# Altium integrated library Atmel Microcontroller 32-Bit AVR UC3.IntLib: 109 symbols (part 3 of 15)
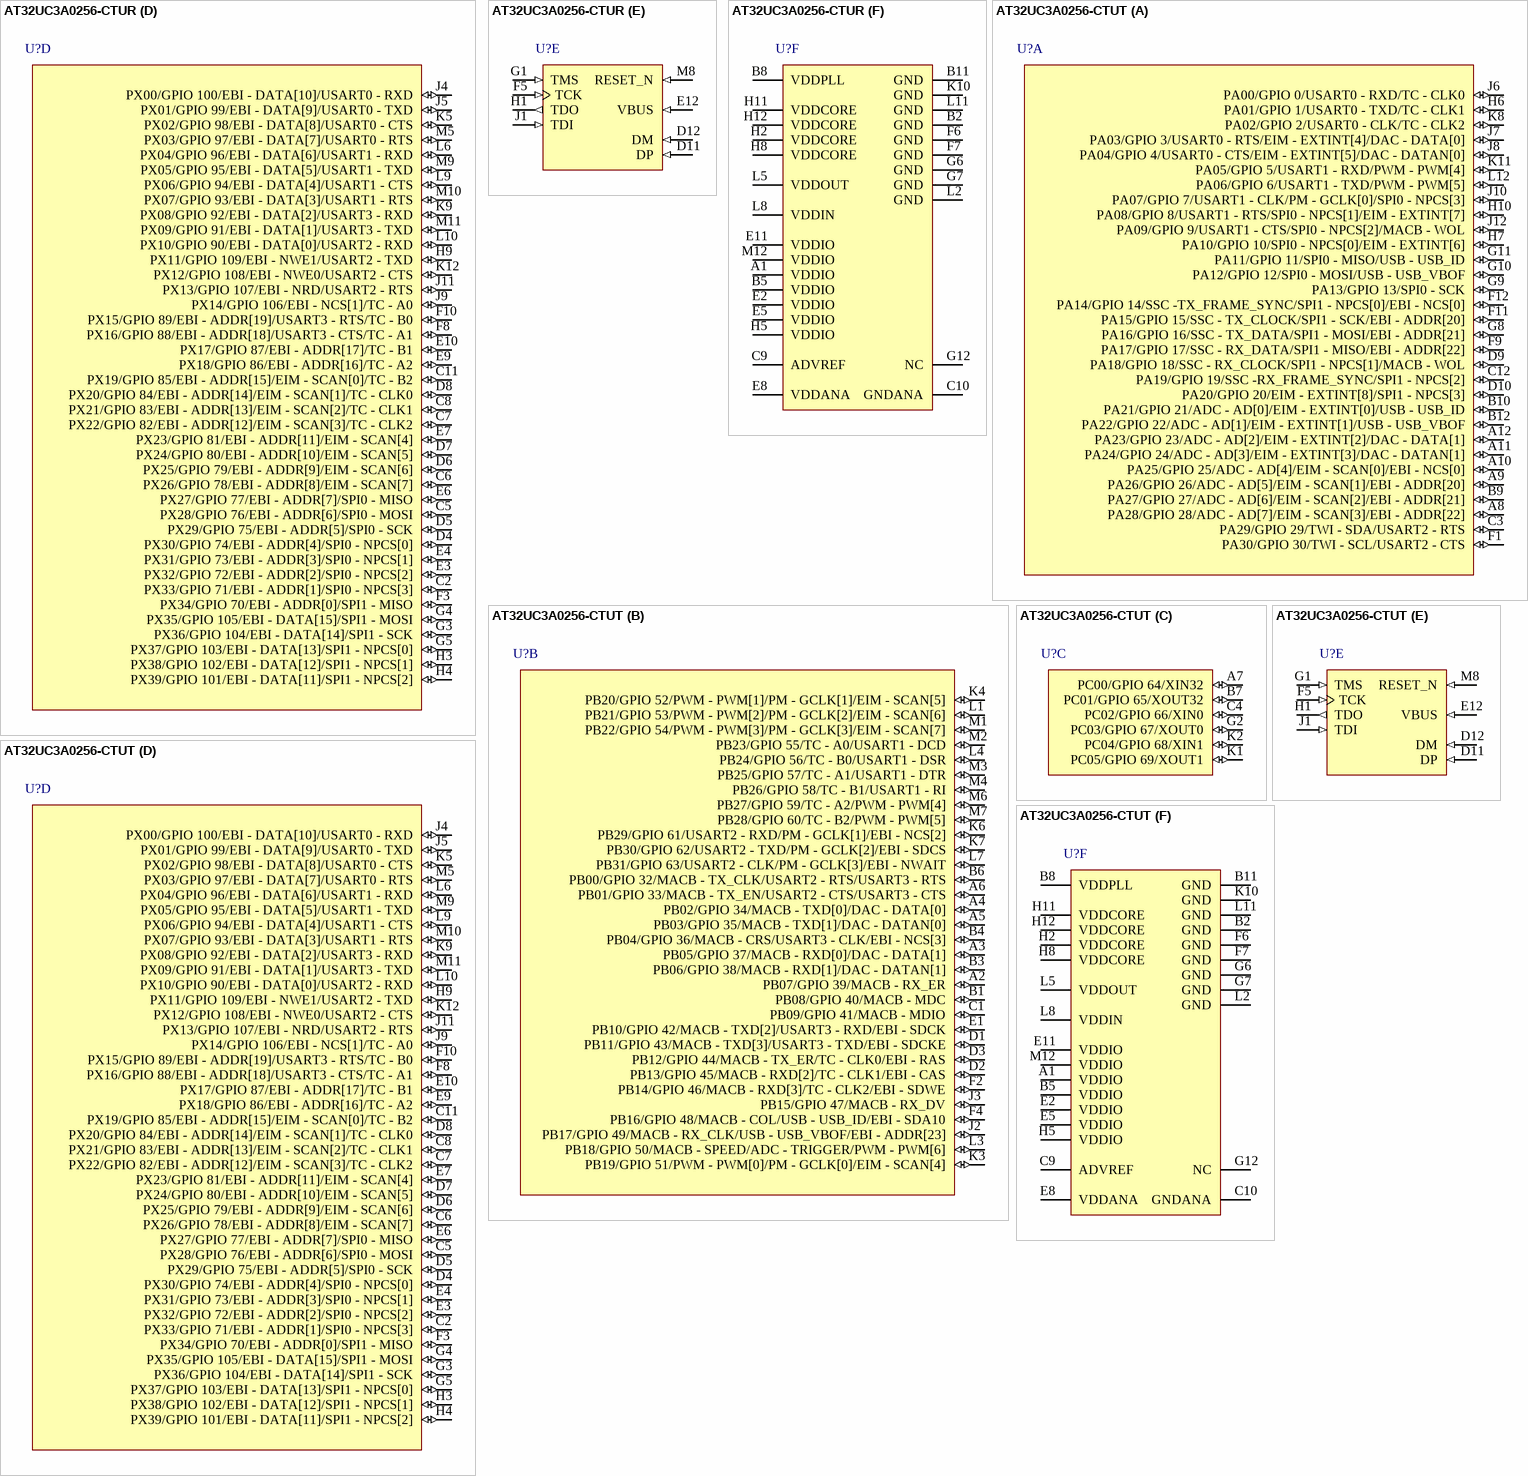
[diagram p72: symbols AT32UC3A0256-CTUR to AT32UC3A0256-CTUT]

## AT32UC3A0256-CTUT
designator U?
32-bit AVR UC3 Microcontroller, 256KB Flash, 64KB SRAM, 109 GPIO pins, Ext. Bus Interface, 144-Pin FFBGA, Industrial Grade, Tray; Published: 1-Apr-2010; DatasheetVersion: revI, Nov-2009; PackageVersion: 2009; PackageReference: FFBGA144; Publisher: Altium Limited; PackageDescription: 144-Ball Thin Fine Pitch BGA, 11 x 11 x 0.79 mm Body, 0.8 mm Pitch; Supplier 1: Digi-Key; Supplier Part Number 1: AT32UC3A0256-CTUT-ND; Supplier 2: Mouser; Supplier Part Number 2: 556-AT32UC3A0256CTUT; Code_JEDEC: MS-026; ComponentLink1Description: Manufacturer Link; ComponentLink1URL: http://www.atmel.com/products/avr/default.asp?; ComponentLink2Description: AT32UC3A Datasheet; ComponentLink2URL: http://www.atmel.com/dyn/resources/prod_documents/doc32058.pdf; ComponentLink3Description: AT32UC3A Summary; ComponentLink3URL: http://www.atmel.com/dyn/resources/prod_documents/32058S.pdf; ComponentLink4Description: Atmel.com Home; ComponentLink4URL: http://www.atmel.com
footprint FFBGA144 (BGA, 144-Leads, Body 11x11mm, Pitch 0.8mm)
part A pins: A8 PA28/GPIO 28/ADC - AD[7]/EIM - SCAN[3]/EBI - ADDR[22] (io), A9 PA26/GPIO 26/ADC - AD[5]/EIM - SCAN[1]/EBI - ADDR[20] (io), A10 PA25/GPIO 25/ADC - AD[4]/EIM - SCAN[0]/EBI - NCS[0] (io), A11 PA24/GPIO 24/ADC - AD[3]/EIM - EXTINT[3]/DAC - DATAN[1] (io), A12 PA23/GPIO 23/ADC - AD[2]/EIM - EXTINT[2]/DAC - DATA[1] (io), B9 PA27/GPIO 27/ADC - AD[6]/EIM - SCAN[2]/EBI - ADDR[21] (io), B10 PA21/GPIO 21/ADC - AD[0]/EIM - EXTINT[0]/USB - USB_ID (io), B12 PA22/GPIO 22/ADC - AD[1]/EIM - EXTINT[1]/USB - USB_VBOF (io), C3 PA29/GPIO 29/TWI - SDA/USART2 - RTS (io), C12 PA19/GPIO 19/SSC -RX_FRAME_SYNC/SPI1 - NPCS[2] (io), D9 PA18/GPIO 18/SSC - RX_CLOCK/SPI1 - NPCS[1]/MACB - WOL (io), D10 PA20/GPIO 20/EIM - EXTINT[8]/SPI1 - NPCS[3] (io), F1 PA30/GPIO 30/TWI - SCL/USART2 - CTS (io), F9 PA17/GPIO 17/SSC - RX_DATA/SPI1 - MISO/EBI - ADDR[22] (io), F11 PA15/GPIO 15/SSC - TX_CLOCK/SPI1 - SCK/EBI - ADDR[20] (io), F12 PA14/GPIO 14/SSC -TX_FRAME_SYNC/SPI1 - NPCS[0]/EBI - NCS[0] (io), G8 PA16/GPIO 16/SSC - TX_DATA/SPI1 - MOSI/EBI - ADDR[21] (io), G9 PA13/GPIO 13/SPI0 - SCK (io), G10 PA12/GPIO 12/SPI0 - MOSI/USB - USB_VBOF (io), G11 PA11/GPIO 11/SPI0 - MISO/USB - USB_ID (io), H6 PA01/GPIO 1/USART0 - TXD/TC - CLK1 (io), H7 PA10/GPIO 10/SPI0 - NPCS[0]/EIM - EXTINT[6] (io), H10 PA08/GPIO 8/USART1 - RTS/SPI0 - NPCS[1]/EIM - EXTINT[7] (io), J6 PA00/GPIO 0/USART0 - RXD/TC - CLK0 (io), J7 PA03/GPIO 3/USART0 - RTS/EIM - EXTINT[4]/DAC - DATA[0] (io), J8 PA04/GPIO 4/USART0 - CTS/EIM - EXTINT[5]/DAC - DATAN[0] (io), J10 PA07/GPIO 7/USART1 - CLK/PM - GCLK[0]/SPI0 - NPCS[3] (io), J12 PA09/GPIO 9/USART1 - CTS/SPI0 - NPCS[2]/MACB - WOL (io), K8 PA02/GPIO 2/USART0 - CLK/TC - CLK2 (io), K11 PA05/GPIO 5/USART1 - RXD/PWM - PWM[4] (io), L12 PA06/GPIO 6/USART1 - TXD/PWM - PWM[5] (io)
part B pins: A2 PB07/GPIO 39/MACB - RX_ER (io), A3 PB05/GPIO 37/MACB - RXD[0]/DAC - DATA[1] (io), A4 PB02/GPIO 34/MACB - TXD[0]/DAC - DATA[0] (io), A5 PB03/GPIO 35/MACB - TXD[1]/DAC - DATAN[0] (io), A6 PB01/GPIO 33/MACB - TX_EN/USART2 - CTS/USART3 - CTS (io), B1 PB08/GPIO 40/MACB - MDC (io), B3 PB06/GPIO 38/MACB - RXD[1]/DAC - DATAN[1] (io), B4 PB04/GPIO 36/MACB - CRS/USART3 - CLK/EBI - NCS[3] (io), B6 PB00/GPIO 32/MACB - TX_CLK/USART2 - RTS/USART3 - RTS (io), C1 PB09/GPIO 41/MACB - MDIO (io), D1 PB11/GPIO 43/MACB - TXD[3]/USART3 - TXD/EBI - SDCKE (io), D2 PB13/GPIO 45/MACB - RXD[2]/TC - CLK1/EBI - CAS (io), D3 PB12/GPIO 44/MACB - TX_ER/TC - CLK0/EBI - RAS (io), E1 PB10/GPIO 42/MACB - TXD[2]/USART3 - RXD/EBI - SDCK (io), F2 PB14/GPIO 46/MACB - RXD[3]/TC - CLK2/EBI - SDWE (io), F4 PB16/GPIO 48/MACB - COL/USB - USB_ID/EBI - SDA10 (io), J2 PB17/GPIO 49/MACB - RX_CLK/USB - USB_VBOF/EBI - ADDR[23] (io), J3 PB15/GPIO 47/MACB - RX_DV (io), K3 PB19/GPIO 51/PWM - PWM[0]/PM - GCLK[0]/EIM - SCAN[4] (io), K4 PB20/GPIO 52/PWM - PWM[1]/PM - GCLK[1]/EIM - SCAN[5] (io), K6 PB29/GPIO 61/USART2 - RXD/PM - GCLK[1]/EBI - NCS[2] (io), K7 PB30/GPIO 62/USART2 - TXD/PM - GCLK[2]/EBI - SDCS (io), L1 PB21/GPIO 53/PWM - PWM[2]/PM - GCLK[2]/EIM - SCAN[6] (io), L3 PB18/GPIO 50/MACB - SPEED/ADC - TRIGGER/PWM - PWM[6] (io), L4 PB24/GPIO 56/TC - B0/USART1 - DSR (io), L7 PB31/GPIO 63/USART2 - CLK/PM - GCLK[3]/EBI - NWAIT (io), M1 PB22/GPIO 54/PWM - PWM[3]/PM - GCLK[3]/EIM - SCAN[7] (io), M2 PB23/GPIO 55/TC - A0/USART1 - DCD (io), M3 PB25/GPIO 57/TC - A1/USART1 - DTR (io), M4 PB26/GPIO 58/TC - B1/USART1 - RI (io), M6 PB27/GPIO 59/TC - A2/PWM - PWM[4] (io), M7 PB28/GPIO 60/TC - B2/PWM - PWM[5] (io)
part C pins: A7 PC00/GPIO 64/XIN32 (io), B7 PC01/GPIO 65/XOUT32 (io), C4 PC02/GPIO 66/XIN0 (io), G2 PC03/GPIO 67/XOUT0 (io), K1 PC05/GPIO 69/XOUT1 (io), K2 PC04/GPIO 68/XIN1 (io)
part D pins: C2 PX33/GPIO 71/EBI - ADDR[1]/SPI0 - NPCS[3] (io), C5 PX28/GPIO 76/EBI - ADDR[6]/SPI0 - MOSI (io), C6 PX26/GPIO 78/EBI - ADDR[8]/EIM - SCAN[7] (io), C7 PX22/GPIO 82/EBI - ADDR[12]/EIM - SCAN[3]/TC - CLK2 (io), C8 PX21/GPIO 83/EBI - ADDR[13]/EIM - SCAN[2]/TC - CLK1 (io), C11 PX19/GPIO 85/EBI - ADDR[15]/EIM - SCAN[0]/TC - B2 (io), D4 PX30/GPIO 74/EBI - ADDR[4]/SPI0 - NPCS[0] (io), D5 PX29/GPIO 75/EBI - ADDR[5]/SPI0 - SCK (io), D6 PX25/GPIO 79/EBI - ADDR[9]/EIM - SCAN[6] (io), D7 PX24/GPIO 80/EBI - ADDR[10]/EIM - SCAN[5] (io), D8 PX20/GPIO 84/EBI - ADDR[14]/EIM - SCAN[1]/TC - CLK0 (io), E3 PX32/GPIO 72/EBI - ADDR[2]/SPI0 - NPCS[2] (io), E4 PX31/GPIO 73/EBI - ADDR[3]/SPI0 - NPCS[1] (io), E6 PX27/GPIO 77/EBI - ADDR[7]/SPI0 - MISO (io), E7 PX23/GPIO 81/EBI - ADDR[11]/EIM - SCAN[4] (io), E9 PX18/GPIO 86/EBI - ADDR[16]/TC - A2 (io), E10 PX17/GPIO 87/EBI - ADDR[17]/TC - B1 (io), F3 PX34/GPIO 70/EBI - ADDR[0]/SPI1 - MISO (io), F8 PX16/GPIO 88/EBI - ADDR[18]/USART3 - CTS/TC - A1 (io), F10 PX15/GPIO 89/EBI - ADDR[19]/USART3 - RTS/TC - B0 (io), G3 PX36/GPIO 104/EBI - DATA[14]/SPI1 - SCK (io), G4 PX35/GPIO 105/EBI - DATA[15]/SPI1 - MOSI (io), G5 PX37/GPIO 103/EBI - DATA[13]/SPI1 - NPCS[0] (io), H3 PX38/GPIO 102/EBI - DATA[12]/SPI1 - NPCS[1] (io), H4 PX39/GPIO 101/EBI - DATA[11]/SPI1 - NPCS[2] (io), H9 PX11/GPIO 109/EBI - NWE1/USART2 - TXD (io), J4 PX00/GPIO 100/EBI - DATA[10]/USART0 - RXD (io), J5 PX01/GPIO 99/EBI - DATA[9]/USART0 - TXD (io), J9 PX14/GPIO 106/EBI - NCS[1]/TC - A0 (io), J11 PX13/GPIO 107/EBI - NRD/USART2 - RTS (io), K5 PX02/GPIO 98/EBI - DATA[8]/USART0 - CTS (io), K9 PX08/GPIO 92/EBI - DATA[2]/USART3 - RXD (io), K12 PX12/GPIO 108/EBI - NWE0/USART2 - CTS (io), L6 PX04/GPIO 96/EBI - DATA[6]/USART1 - RXD (io), L9 PX06/GPIO 94/EBI - DATA[4]/USART1 - CTS (io), L10 PX10/GPIO 90/EBI - DATA[0]/USART2 - RXD (io), M5 PX03/GPIO 97/EBI - DATA[7]/USART0 - RTS (io), M9 PX05/GPIO 95/EBI - DATA[5]/USART1 - TXD (io), M10 PX07/GPIO 93/EBI - DATA[3]/USART1 - RTS (io), M11 PX09/GPIO 91/EBI - DATA[1]/USART3 - TXD (io)
part E pins: D11 DP (in), D12 DM (in), E12 VBUS (in), F5 TCK (in), G1 TMS (in), H1 TDO (out), J1 TDI (in), M8 RESET_N (in)
part F pins: A1 VDDIO (power), B2 GND (power), B5 VDDIO (power), B8 VDDPLL (power), B11 GND (power), C9 ADVREF (power), C10 GNDANA (power), E2 VDDIO (power), E5 VDDIO (power), E8 VDDANA (power), E11 VDDIO (power), F6 GND (power), F7 GND (power), G6 GND (power), G7 GND (power), G12 NC, H2 VDDCORE (power), H5 VDDIO (power), H8 VDDCORE (power), H11 VDDCORE (power), H12 VDDCORE (power), K10 GND (power), L2 GND (power), L5 VDDOUT (power), L8 VDDIN (power), L11 GND (power), M12 VDDIO (power)

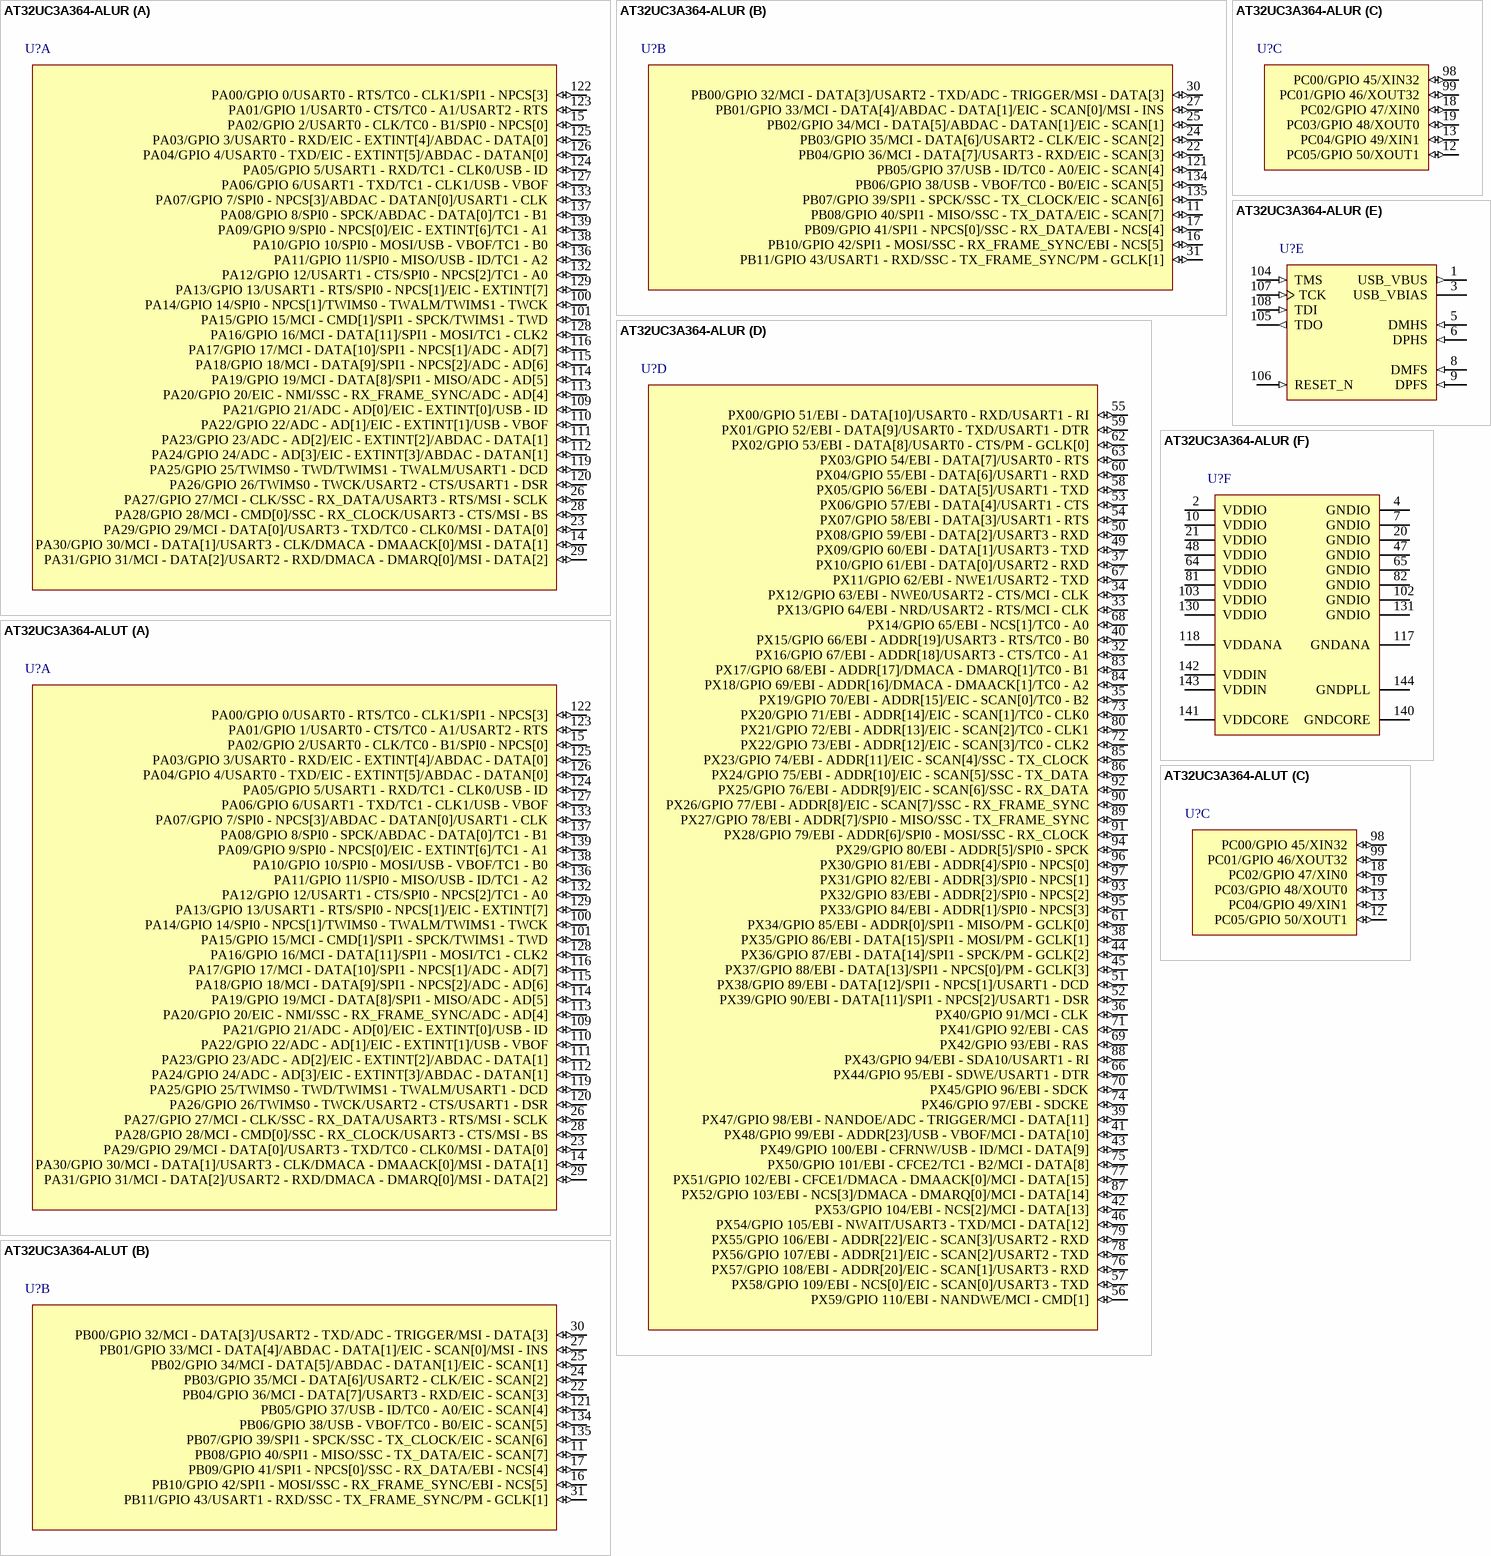
[diagram p9: symbols AT32UC3A364-ALUR to AT32UC3A364-ALUT]

## AT32UC3A364-ALUR
designator U?
32-bit AVR UC3 Microcontroller, 64KB Flash, 128KB SRAM, 110 GPIO pins, 144-Pin LQFP, Industrial Grade, Reel; Published: 1-Apr-2010; DatasheetVersion: revC, Mar-2010; PackageVersion: rev.C, Oct-2001; PackageReference: 144AA; Publisher: Altium Limited; PackageDescription: 144-Pin Thin Quad Flat Pack 0.5 mm Pitch; Supplier 1: Digi-Key; Supplier Part Number 1: AT32UC3A364-ALUR-ND; Supplier 2: Mouser; Supplier Part Number 2: 556-AT32UC3A364-ALUR; Code_JEDEC: MS-026-BFB; ComponentLink1Description: Manufacturer Link; ComponentLink1URL: http://www.atmel.com/products/avr/default.asp?; ComponentLink2Description: AT32UC3A3/A4 Datasheet; ComponentLink2URL: http://www.atmel.com/dyn/resources/prod_documents/doc32072.pdf; ComponentLink3Description: AT32UC3A3/A4 Summary; ComponentLink3URL: http://www.atmel.com/dyn/resources/prod_documents/32072s.pdf; ComponentLink4Description: Atmel.com Home; ComponentLink4URL: http://www.atmel.com
footprint 144AA_N (Thin QFP, 144-Leads, Body 20x20mm, Pitch 0.5mm, IPC Medium Density)
footprint 144AA_L (Thin QFP, 144-Leads, Body 20x20mm, Pitch 0.5mm, IPC High Density)
footprint 144AA_M (Thin QFP, 144-Leads, Body 20x20mm, Pitch 0.5mm, IPC Low Density)
part A pins: 14 PA30/GPIO 30/MCI - DATA[1]/USART3 - CLK/DMACA - DMAACK[0]/MSI - DATA[1] (io), 15 PA02/GPIO 2/USART0 - CLK/TC0 - B1/SPI0 - NPCS[0] (io), 23 PA29/GPIO 29/MCI - DATA[0]/USART3 - TXD/TC0 - CLK0/MSI - DATA[0] (io), 26 PA27/GPIO 27/MCI - CLK/SSC - RX_DATA/USART3 - RTS/MSI - SCLK (io), 28 PA28/GPIO 28/MCI - CMD[0]/SSC - RX_CLOCK/USART3 - CTS/MSI - BS (io), 29 PA31/GPIO 31/MCI - DATA[2]/USART2 - RXD/DMACA - DMARQ[0]/MSI - DATA[2] (io), 100 PA14/GPIO 14/SPI0 - NPCS[1]/TWIMS0 - TWALM/TWIMS1 - TWCK (io), 101 PA15/GPIO 15/MCI - CMD[1]/SPI1 - SPCK/TWIMS1 - TWD (io), 109 PA21/GPIO 21/ADC - AD[0]/EIC - EXTINT[0]/USB - ID (io), 110 PA22/GPIO 22/ADC - AD[1]/EIC - EXTINT[1]/USB - VBOF (io), 111 PA23/GPIO 23/ADC - AD[2]/EIC - EXTINT[2]/ABDAC - DATA[1] (io), 112 PA24/GPIO 24/ADC - AD[3]/EIC - EXTINT[3]/ABDAC - DATAN[1] (io), 113 PA20/GPIO 20/EIC - NMI/SSC - RX_FRAME_SYNC/ADC - AD[4] (io), 114 PA19/GPIO 19/MCI - DATA[8]/SPI1 - MISO/ADC - AD[5] (io), 115 PA18/GPIO 18/MCI - DATA[9]/SPI1 - NPCS[2]/ADC - AD[6] (io), 116 PA17/GPIO 17/MCI - DATA[10]/SPI1 - NPCS[1]/ADC - AD[7] (io), 119 PA25/GPIO 25/TWIMS0 - TWD/TWIMS1 - TWALM/USART1 - DCD (io), 120 PA26/GPIO 26/TWIMS0 - TWCK/USART2 - CTS/USART1 - DSR (io), 122 PA00/GPIO 0/USART0 - RTS/TC0 - CLK1/SPI1 - NPCS[3] (io), 123 PA01/GPIO 1/USART0 - CTS/TC0 - A1/USART2 - RTS (io), 124 PA05/GPIO 5/USART1 - RXD/TC1 - CLK0/USB - ID (io), 125 PA03/GPIO 3/USART0 - RXD/EIC - EXTINT[4]/ABDAC - DATA[0] (io), 126 PA04/GPIO 4/USART0 - TXD/EIC - EXTINT[5]/ABDAC - DATAN[0] (io), 127 PA06/GPIO 6/USART1 - TXD/TC1 - CLK1/USB - VBOF (io), 128 PA16/GPIO 16/MCI - DATA[11]/SPI1 - MOSI/TC1 - CLK2 (io), 129 PA13/GPIO 13/USART1 - RTS/SPI0 - NPCS[1]/EIC - EXTINT[7] (io), 132 PA12/GPIO 12/USART1 - CTS/SPI0 - NPCS[2]/TC1 - A0 (io), 133 PA07/GPIO 7/SPI0 - NPCS[3]/ABDAC - DATAN[0]/USART1 - CLK (io), 136 PA11/GPIO 11/SPI0 - MISO/USB - ID/TC1 - A2 (io), 137 PA08/GPIO 8/SPI0 - SPCK/ABDAC - DATA[0]/TC1 - B1 (io), 138 PA10/GPIO 10/SPI0 - MOSI/USB - VBOF/TC1 - B0 (io), 139 PA09/GPIO 9/SPI0 - NPCS[0]/EIC - EXTINT[6]/TC1 - A1 (io)
part B pins: 11 PB08/GPIO 40/SPI1 - MISO/SSC - TX_DATA/EIC - SCAN[7] (io), 16 PB10/GPIO 42/SPI1 - MOSI/SSC - RX_FRAME_SYNC/EBI - NCS[5] (io), 17 PB09/GPIO 41/SPI1 - NPCS[0]/SSC - RX_DATA/EBI - NCS[4] (io), 22 PB04/GPIO 36/MCI - DATA[7]/USART3 - RXD/EIC - SCAN[3] (io), 24 PB03/GPIO 35/MCI - DATA[6]/USART2 - CLK/EIC - SCAN[2] (io), 25 PB02/GPIO 34/MCI - DATA[5]/ABDAC - DATAN[1]/EIC - SCAN[1] (io), 27 PB01/GPIO 33/MCI - DATA[4]/ABDAC - DATA[1]/EIC - SCAN[0]/MSI - INS (io), 30 PB00/GPIO 32/MCI - DATA[3]/USART2 - TXD/ADC - TRIGGER/MSI - DATA[3] (io), 31 PB11/GPIO 43/USART1 - RXD/SSC - TX_FRAME_SYNC/PM - GCLK[1] (io), 121 PB05/GPIO 37/USB - ID/TC0 - A0/EIC - SCAN[4] (io), 134 PB06/GPIO 38/USB - VBOF/TC0 - B0/EIC - SCAN[5] (io), 135 PB07/GPIO 39/SPI1 - SPCK/SSC - TX_CLOCK/EIC - SCAN[6] (io)
part C pins: 12 PC05/GPIO 50/XOUT1 (io), 13 PC04/GPIO 49/XIN1 (io), 18 PC02/GPIO 47/XIN0 (io), 19 PC03/GPIO 48/XOUT0 (io), 98 PC00/GPIO 45/XIN32 (io), 99 PC01/GPIO 46/XOUT32 (io)
part D pins: 32 PX16/GPIO 67/EBI - ADDR[18]/USART3 - CTS/TC0 - A1 (io), 33 PX13/GPIO 64/EBI - NRD/USART2 - RTS/MCI - CLK (io), 34 PX12/GPIO 63/EBI - NWE0/USART2 - CTS/MCI - CLK (io), 35 PX19/GPIO 70/EBI - ADDR[15]/EIC - SCAN[0]/TC0 - B2 (io), 36 PX40/GPIO 91/MCI - CLK (io), 37 PX10/GPIO 61/EBI - DATA[0]/USART2 - RXD (io), 38 PX35/GPIO 86/EBI - DATA[15]/SPI1 - MOSI/PM - GCLK[1] (io), 39 PX47/GPIO 98/EBI - NANDOE/ADC - TRIGGER/MCI - DATA[11] (io), 40 PX15/GPIO 66/EBI - ADDR[19]/USART3 - RTS/TC0 - B0 (io), 41 PX48/GPIO 99/EBI - ADDR[23]/USB - VBOF/MCI - DATA[10] (io), 42 PX53/GPIO 104/EBI - NCS[2]/MCI - DATA[13] (io), 43 PX49/GPIO 100/EBI - CFRNW/USB - ID/MCI - DATA[9] (io), 44 PX36/GPIO 87/EBI - DATA[14]/SPI1 - SPCK/PM - GCLK[2] (io), 45 PX37/GPIO 88/EBI - DATA[13]/SPI1 - NPCS[0]/PM - GCLK[3] (io), 46 PX54/GPIO 105/EBI - NWAIT/USART3 - TXD/MCI - DATA[12] (io), 49 PX09/GPIO 60/EBI - DATA[1]/USART3 - TXD (io), 50 PX08/GPIO 59/EBI - DATA[2]/USART3 - RXD (io), 51 PX38/GPIO 89/EBI - DATA[12]/SPI1 - NPCS[1]/USART1 - DCD (io), 52 PX39/GPIO 90/EBI - DATA[11]/SPI1 - NPCS[2]/USART1 - DSR (io), 53 PX06/GPIO 57/EBI - DATA[4]/USART1 - CTS (io), 54 PX07/GPIO 58/EBI - DATA[3]/USART1 - RTS (io), 55 PX00/GPIO 51/EBI - DATA[10]/USART0 - RXD/USART1 - RI (io), 56 PX59/GPIO 110/EBI - NANDWE/MCI - CMD[1] (io), 57 PX58/GPIO 109/EBI - NCS[0]/EIC - SCAN[0]/USART3 - TXD (io), 58 PX05/GPIO 56/EBI - DATA[5]/USART1 - TXD (io), 59 PX01/GPIO 52/EBI - DATA[9]/USART0 - TXD/USART1 - DTR (io), 60 PX04/GPIO 55/EBI - DATA[6]/USART1 - RXD (io), 61 PX34/GPIO 85/EBI - ADDR[0]/SPI1 - MISO/PM - GCLK[0] (io), 62 PX02/GPIO 53/EBI - DATA[8]/USART0 - CTS/PM - GCLK[0] (io), 63 PX03/GPIO 54/EBI - DATA[7]/USART0 - RTS (io), 66 PX44/GPIO 95/EBI - SDWE/USART1 - DTR (io), 67 PX11/GPIO 62/EBI - NWE1/USART2 - TXD (io), 68 PX14/GPIO 65/EBI - NCS[1]/TC0 - A0 (io), 69 PX42/GPIO 93/EBI - RAS (io), 70 PX45/GPIO 96/EBI - SDCK (io), 71 PX41/GPIO 92/EBI - CAS (io), 72 PX22/GPIO 73/EBI - ADDR[12]/EIC - SCAN[3]/TC0 - CLK2 (io), 73 PX20/GPIO 71/EBI - ADDR[14]/EIC - SCAN[1]/TC0 - CLK0 (io), 74 PX46/GPIO 97/EBI - SDCKE (io), 75 PX50/GPIO 101/EBI - CFCE2/TC1 - B2/MCI - DATA[8] (io), 76 PX57/GPIO 108/EBI - ADDR[20]/EIC - SCAN[1]/USART3 - RXD (io), 77 PX51/GPIO 102/EBI - CFCE1/DMACA - DMAACK[0]/MCI - DATA[15] (io), 78 PX56/GPIO 107/EBI - ADDR[21]/EIC - SCAN[2]/USART2 - TXD (io), 79 PX55/GPIO 106/EBI - ADDR[22]/EIC - SCAN[3]/USART2 - RXD (io), 80 PX21/GPIO 72/EBI - ADDR[13]/EIC - SCAN[2]/TC0 - CLK1 (io), 83 PX17/GPIO 68/EBI - ADDR[17]/DMACA - DMARQ[1]/TC0 - B1 (io), 84 PX18/GPIO 69/EBI - ADDR[16]/DMACA - DMAACK[1]/TC0 - A2 (io), 85 PX23/GPIO 74/EBI - ADDR[11]/EIC - SCAN[4]/SSC - TX_CLOCK (io), 86 PX24/GPIO 75/EBI - ADDR[10]/EIC - SCAN[5]/SSC - TX_DATA (io), 87 PX52/GPIO 103/EBI - NCS[3]/DMACA - DMARQ[0]/MCI - DATA[14] (io), 88 PX43/GPIO 94/EBI - SDA10/USART1 - RI (io), 89 PX27/GPIO 78/EBI - ADDR[7]/SPI0 - MISO/SSC - TX_FRAME_SYNC (io), 90 PX26/GPIO 77/EBI - ADDR[8]/EIC - SCAN[7]/SSC - RX_FRAME_SYNC (io), 91 PX28/GPIO 79/EBI - ADDR[6]/SPI0 - MOSI/SSC - RX_CLOCK (io), 92 PX25/GPIO 76/EBI - ADDR[9]/EIC - SCAN[6]/SSC - RX_DATA (io), 93 PX32/GPIO 83/EBI - ADDR[2]/SPI0 - NPCS[2] (io), 94 PX29/GPIO 80/EBI - ADDR[5]/SPI0 - SPCK (io), 95 PX33/GPIO 84/EBI - ADDR[1]/SPI0 - NPCS[3] (io), 96 PX30/GPIO 81/EBI - ADDR[4]/SPI0 - NPCS[0] (io), 97 PX31/GPIO 82/EBI - ADDR[3]/SPI0 - NPCS[1] (io)
part E pins: 1 USB_VBUS (out), 3 USB_VBIAS, 5 DMHS (in), 6 DPHS (in), 8 DMFS (in), 9 DPFS (in), 104 TMS (in), 105 TDO (out), 106 RESET_N (in), 107 TCK (in), 108 TDI (in)
part F pins: 2 VDDIO (power), 4 GNDIO (power), 7 GNDIO (power), 10 VDDIO (power), 20 GNDIO (power), 21 VDDIO (power), 47 GNDIO (power), 48 VDDIO (power), 64 VDDIO (power), 65 GNDIO (power), 81 VDDIO (power), 82 GNDIO (power), 102 GNDIO (power), 103 VDDIO (power), 117 GNDANA (power), 118 VDDANA (power), 130 VDDIO (power), 131 GNDIO (power), 140 GNDCORE (power), 141 VDDCORE (power), 142 VDDIN (power), 143 VDDIN (power), 144 GNDPLL (power)

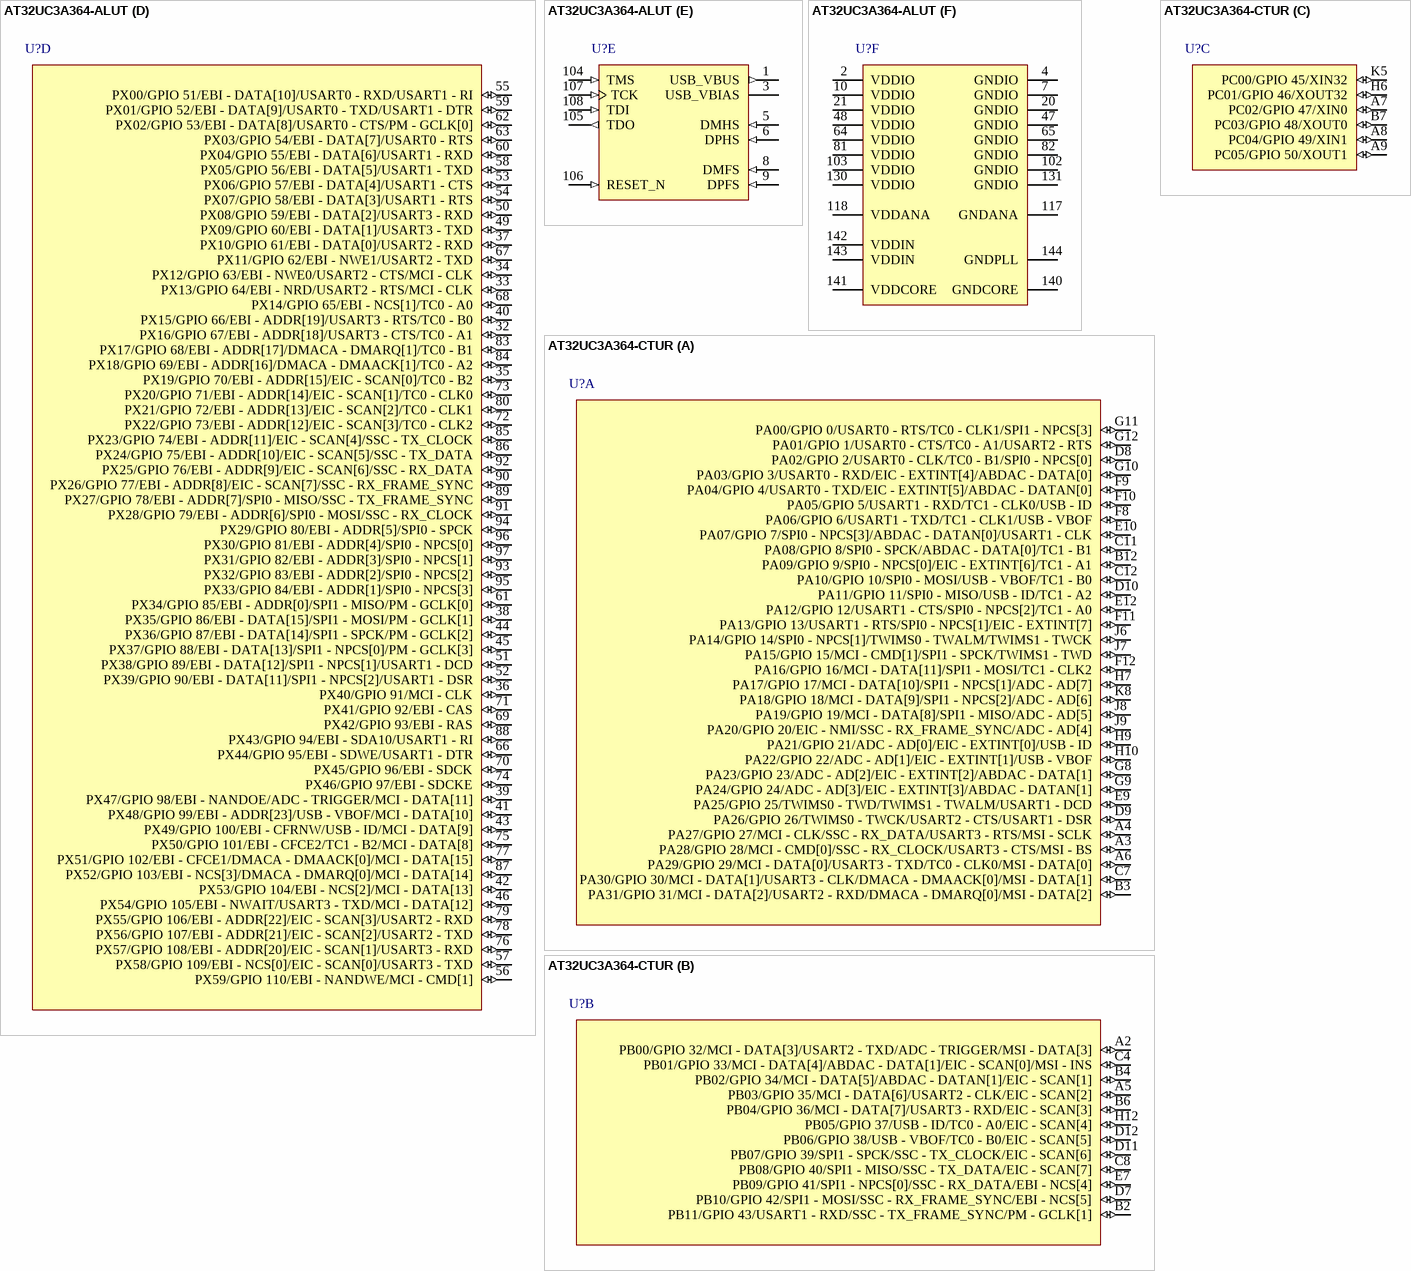
[diagram p10: symbols AT32UC3A364-ALUT to AT32UC3A364-CTUR]

## AT32UC3A364-ALUT
designator U?
32-bit AVR UC3 Microcontroller, 64KB Flash, 128KB SRAM, 110 GPIO pins, 144-Pin LQFP, Industrial Grade, Tray; Published: 1-Apr-2010; DatasheetVersion: revC, Mar-2010; PackageVersion: rev.C, Oct-2001; PackageReference: 144AA; Publisher: Altium Limited; PackageDescription: 144-Pin Thin Quad Flat Pack 0.5 mm Pitch; Supplier 1: Digi-Key; Supplier Part Number 1: AT32UC3A364-ALUT-ND; Supplier 2: Mouser; Supplier Part Number 2: 556-AT32UC3A364-ALUT; Code_JEDEC: MS-026-BFB; ComponentLink1Description: Manufacturer Link; ComponentLink1URL: http://www.atmel.com/products/avr/default.asp?; ComponentLink2Description: AT32UC3A3/A4 Datasheet; ComponentLink2URL: http://www.atmel.com/dyn/resources/prod_documents/doc32072.pdf; ComponentLink3Description: AT32UC3A3/A4 Summary; ComponentLink3URL: http://www.atmel.com/dyn/resources/prod_documents/32072s.pdf; ComponentLink4Description: Atmel.com Home; ComponentLink4URL: http://www.atmel.com
footprint 144AA_N (Thin QFP, 144-Leads, Body 20x20mm, Pitch 0.5mm, IPC Medium Density)
footprint 144AA_L (Thin QFP, 144-Leads, Body 20x20mm, Pitch 0.5mm, IPC High Density)
footprint 144AA_M (Thin QFP, 144-Leads, Body 20x20mm, Pitch 0.5mm, IPC Low Density)
part A pins: 14 PA30/GPIO 30/MCI - DATA[1]/USART3 - CLK/DMACA - DMAACK[0]/MSI - DATA[1] (io), 15 PA02/GPIO 2/USART0 - CLK/TC0 - B1/SPI0 - NPCS[0] (io), 23 PA29/GPIO 29/MCI - DATA[0]/USART3 - TXD/TC0 - CLK0/MSI - DATA[0] (io), 26 PA27/GPIO 27/MCI - CLK/SSC - RX_DATA/USART3 - RTS/MSI - SCLK (io), 28 PA28/GPIO 28/MCI - CMD[0]/SSC - RX_CLOCK/USART3 - CTS/MSI - BS (io), 29 PA31/GPIO 31/MCI - DATA[2]/USART2 - RXD/DMACA - DMARQ[0]/MSI - DATA[2] (io), 100 PA14/GPIO 14/SPI0 - NPCS[1]/TWIMS0 - TWALM/TWIMS1 - TWCK (io), 101 PA15/GPIO 15/MCI - CMD[1]/SPI1 - SPCK/TWIMS1 - TWD (io), 109 PA21/GPIO 21/ADC - AD[0]/EIC - EXTINT[0]/USB - ID (io), 110 PA22/GPIO 22/ADC - AD[1]/EIC - EXTINT[1]/USB - VBOF (io), 111 PA23/GPIO 23/ADC - AD[2]/EIC - EXTINT[2]/ABDAC - DATA[1] (io), 112 PA24/GPIO 24/ADC - AD[3]/EIC - EXTINT[3]/ABDAC - DATAN[1] (io), 113 PA20/GPIO 20/EIC - NMI/SSC - RX_FRAME_SYNC/ADC - AD[4] (io), 114 PA19/GPIO 19/MCI - DATA[8]/SPI1 - MISO/ADC - AD[5] (io), 115 PA18/GPIO 18/MCI - DATA[9]/SPI1 - NPCS[2]/ADC - AD[6] (io), 116 PA17/GPIO 17/MCI - DATA[10]/SPI1 - NPCS[1]/ADC - AD[7] (io), 119 PA25/GPIO 25/TWIMS0 - TWD/TWIMS1 - TWALM/USART1 - DCD (io), 120 PA26/GPIO 26/TWIMS0 - TWCK/USART2 - CTS/USART1 - DSR (io), 122 PA00/GPIO 0/USART0 - RTS/TC0 - CLK1/SPI1 - NPCS[3] (io), 123 PA01/GPIO 1/USART0 - CTS/TC0 - A1/USART2 - RTS (io), 124 PA05/GPIO 5/USART1 - RXD/TC1 - CLK0/USB - ID (io), 125 PA03/GPIO 3/USART0 - RXD/EIC - EXTINT[4]/ABDAC - DATA[0] (io), 126 PA04/GPIO 4/USART0 - TXD/EIC - EXTINT[5]/ABDAC - DATAN[0] (io), 127 PA06/GPIO 6/USART1 - TXD/TC1 - CLK1/USB - VBOF (io), 128 PA16/GPIO 16/MCI - DATA[11]/SPI1 - MOSI/TC1 - CLK2 (io), 129 PA13/GPIO 13/USART1 - RTS/SPI0 - NPCS[1]/EIC - EXTINT[7] (io), 132 PA12/GPIO 12/USART1 - CTS/SPI0 - NPCS[2]/TC1 - A0 (io), 133 PA07/GPIO 7/SPI0 - NPCS[3]/ABDAC - DATAN[0]/USART1 - CLK (io), 136 PA11/GPIO 11/SPI0 - MISO/USB - ID/TC1 - A2 (io), 137 PA08/GPIO 8/SPI0 - SPCK/ABDAC - DATA[0]/TC1 - B1 (io), 138 PA10/GPIO 10/SPI0 - MOSI/USB - VBOF/TC1 - B0 (io), 139 PA09/GPIO 9/SPI0 - NPCS[0]/EIC - EXTINT[6]/TC1 - A1 (io)
part B pins: 11 PB08/GPIO 40/SPI1 - MISO/SSC - TX_DATA/EIC - SCAN[7] (io), 16 PB10/GPIO 42/SPI1 - MOSI/SSC - RX_FRAME_SYNC/EBI - NCS[5] (io), 17 PB09/GPIO 41/SPI1 - NPCS[0]/SSC - RX_DATA/EBI - NCS[4] (io), 22 PB04/GPIO 36/MCI - DATA[7]/USART3 - RXD/EIC - SCAN[3] (io), 24 PB03/GPIO 35/MCI - DATA[6]/USART2 - CLK/EIC - SCAN[2] (io), 25 PB02/GPIO 34/MCI - DATA[5]/ABDAC - DATAN[1]/EIC - SCAN[1] (io), 27 PB01/GPIO 33/MCI - DATA[4]/ABDAC - DATA[1]/EIC - SCAN[0]/MSI - INS (io), 30 PB00/GPIO 32/MCI - DATA[3]/USART2 - TXD/ADC - TRIGGER/MSI - DATA[3] (io), 31 PB11/GPIO 43/USART1 - RXD/SSC - TX_FRAME_SYNC/PM - GCLK[1] (io), 121 PB05/GPIO 37/USB - ID/TC0 - A0/EIC - SCAN[4] (io), 134 PB06/GPIO 38/USB - VBOF/TC0 - B0/EIC - SCAN[5] (io), 135 PB07/GPIO 39/SPI1 - SPCK/SSC - TX_CLOCK/EIC - SCAN[6] (io)
part C pins: 12 PC05/GPIO 50/XOUT1 (io), 13 PC04/GPIO 49/XIN1 (io), 18 PC02/GPIO 47/XIN0 (io), 19 PC03/GPIO 48/XOUT0 (io), 98 PC00/GPIO 45/XIN32 (io), 99 PC01/GPIO 46/XOUT32 (io)
part D pins: 32 PX16/GPIO 67/EBI - ADDR[18]/USART3 - CTS/TC0 - A1 (io), 33 PX13/GPIO 64/EBI - NRD/USART2 - RTS/MCI - CLK (io), 34 PX12/GPIO 63/EBI - NWE0/USART2 - CTS/MCI - CLK (io), 35 PX19/GPIO 70/EBI - ADDR[15]/EIC - SCAN[0]/TC0 - B2 (io), 36 PX40/GPIO 91/MCI - CLK (io), 37 PX10/GPIO 61/EBI - DATA[0]/USART2 - RXD (io), 38 PX35/GPIO 86/EBI - DATA[15]/SPI1 - MOSI/PM - GCLK[1] (io), 39 PX47/GPIO 98/EBI - NANDOE/ADC - TRIGGER/MCI - DATA[11] (io), 40 PX15/GPIO 66/EBI - ADDR[19]/USART3 - RTS/TC0 - B0 (io), 41 PX48/GPIO 99/EBI - ADDR[23]/USB - VBOF/MCI - DATA[10] (io), 42 PX53/GPIO 104/EBI - NCS[2]/MCI - DATA[13] (io), 43 PX49/GPIO 100/EBI - CFRNW/USB - ID/MCI - DATA[9] (io), 44 PX36/GPIO 87/EBI - DATA[14]/SPI1 - SPCK/PM - GCLK[2] (io), 45 PX37/GPIO 88/EBI - DATA[13]/SPI1 - NPCS[0]/PM - GCLK[3] (io), 46 PX54/GPIO 105/EBI - NWAIT/USART3 - TXD/MCI - DATA[12] (io), 49 PX09/GPIO 60/EBI - DATA[1]/USART3 - TXD (io), 50 PX08/GPIO 59/EBI - DATA[2]/USART3 - RXD (io), 51 PX38/GPIO 89/EBI - DATA[12]/SPI1 - NPCS[1]/USART1 - DCD (io), 52 PX39/GPIO 90/EBI - DATA[11]/SPI1 - NPCS[2]/USART1 - DSR (io), 53 PX06/GPIO 57/EBI - DATA[4]/USART1 - CTS (io), 54 PX07/GPIO 58/EBI - DATA[3]/USART1 - RTS (io), 55 PX00/GPIO 51/EBI - DATA[10]/USART0 - RXD/USART1 - RI (io), 56 PX59/GPIO 110/EBI - NANDWE/MCI - CMD[1] (io), 57 PX58/GPIO 109/EBI - NCS[0]/EIC - SCAN[0]/USART3 - TXD (io), 58 PX05/GPIO 56/EBI - DATA[5]/USART1 - TXD (io), 59 PX01/GPIO 52/EBI - DATA[9]/USART0 - TXD/USART1 - DTR (io), 60 PX04/GPIO 55/EBI - DATA[6]/USART1 - RXD (io), 61 PX34/GPIO 85/EBI - ADDR[0]/SPI1 - MISO/PM - GCLK[0] (io), 62 PX02/GPIO 53/EBI - DATA[8]/USART0 - CTS/PM - GCLK[0] (io), 63 PX03/GPIO 54/EBI - DATA[7]/USART0 - RTS (io), 66 PX44/GPIO 95/EBI - SDWE/USART1 - DTR (io), 67 PX11/GPIO 62/EBI - NWE1/USART2 - TXD (io), 68 PX14/GPIO 65/EBI - NCS[1]/TC0 - A0 (io), 69 PX42/GPIO 93/EBI - RAS (io), 70 PX45/GPIO 96/EBI - SDCK (io), 71 PX41/GPIO 92/EBI - CAS (io), 72 PX22/GPIO 73/EBI - ADDR[12]/EIC - SCAN[3]/TC0 - CLK2 (io), 73 PX20/GPIO 71/EBI - ADDR[14]/EIC - SCAN[1]/TC0 - CLK0 (io), 74 PX46/GPIO 97/EBI - SDCKE (io), 75 PX50/GPIO 101/EBI - CFCE2/TC1 - B2/MCI - DATA[8] (io), 76 PX57/GPIO 108/EBI - ADDR[20]/EIC - SCAN[1]/USART3 - RXD (io), 77 PX51/GPIO 102/EBI - CFCE1/DMACA - DMAACK[0]/MCI - DATA[15] (io), 78 PX56/GPIO 107/EBI - ADDR[21]/EIC - SCAN[2]/USART2 - TXD (io), 79 PX55/GPIO 106/EBI - ADDR[22]/EIC - SCAN[3]/USART2 - RXD (io), 80 PX21/GPIO 72/EBI - ADDR[13]/EIC - SCAN[2]/TC0 - CLK1 (io), 83 PX17/GPIO 68/EBI - ADDR[17]/DMACA - DMARQ[1]/TC0 - B1 (io), 84 PX18/GPIO 69/EBI - ADDR[16]/DMACA - DMAACK[1]/TC0 - A2 (io), 85 PX23/GPIO 74/EBI - ADDR[11]/EIC - SCAN[4]/SSC - TX_CLOCK (io), 86 PX24/GPIO 75/EBI - ADDR[10]/EIC - SCAN[5]/SSC - TX_DATA (io), 87 PX52/GPIO 103/EBI - NCS[3]/DMACA - DMARQ[0]/MCI - DATA[14] (io), 88 PX43/GPIO 94/EBI - SDA10/USART1 - RI (io), 89 PX27/GPIO 78/EBI - ADDR[7]/SPI0 - MISO/SSC - TX_FRAME_SYNC (io), 90 PX26/GPIO 77/EBI - ADDR[8]/EIC - SCAN[7]/SSC - RX_FRAME_SYNC (io), 91 PX28/GPIO 79/EBI - ADDR[6]/SPI0 - MOSI/SSC - RX_CLOCK (io), 92 PX25/GPIO 76/EBI - ADDR[9]/EIC - SCAN[6]/SSC - RX_DATA (io), 93 PX32/GPIO 83/EBI - ADDR[2]/SPI0 - NPCS[2] (io), 94 PX29/GPIO 80/EBI - ADDR[5]/SPI0 - SPCK (io), 95 PX33/GPIO 84/EBI - ADDR[1]/SPI0 - NPCS[3] (io), 96 PX30/GPIO 81/EBI - ADDR[4]/SPI0 - NPCS[0] (io), 97 PX31/GPIO 82/EBI - ADDR[3]/SPI0 - NPCS[1] (io)
part E pins: 1 USB_VBUS (out), 3 USB_VBIAS, 5 DMHS (in), 6 DPHS (in), 8 DMFS (in), 9 DPFS (in), 104 TMS (in), 105 TDO (out), 106 RESET_N (in), 107 TCK (in), 108 TDI (in)
part F pins: 2 VDDIO (power), 4 GNDIO (power), 7 GNDIO (power), 10 VDDIO (power), 20 GNDIO (power), 21 VDDIO (power), 47 GNDIO (power), 48 VDDIO (power), 64 VDDIO (power), 65 GNDIO (power), 81 VDDIO (power), 82 GNDIO (power), 102 GNDIO (power), 103 VDDIO (power), 117 GNDANA (power), 118 VDDANA (power), 130 VDDIO (power), 131 GNDIO (power), 140 GNDCORE (power), 141 VDDCORE (power), 142 VDDIN (power), 143 VDDIN (power), 144 GNDPLL (power)

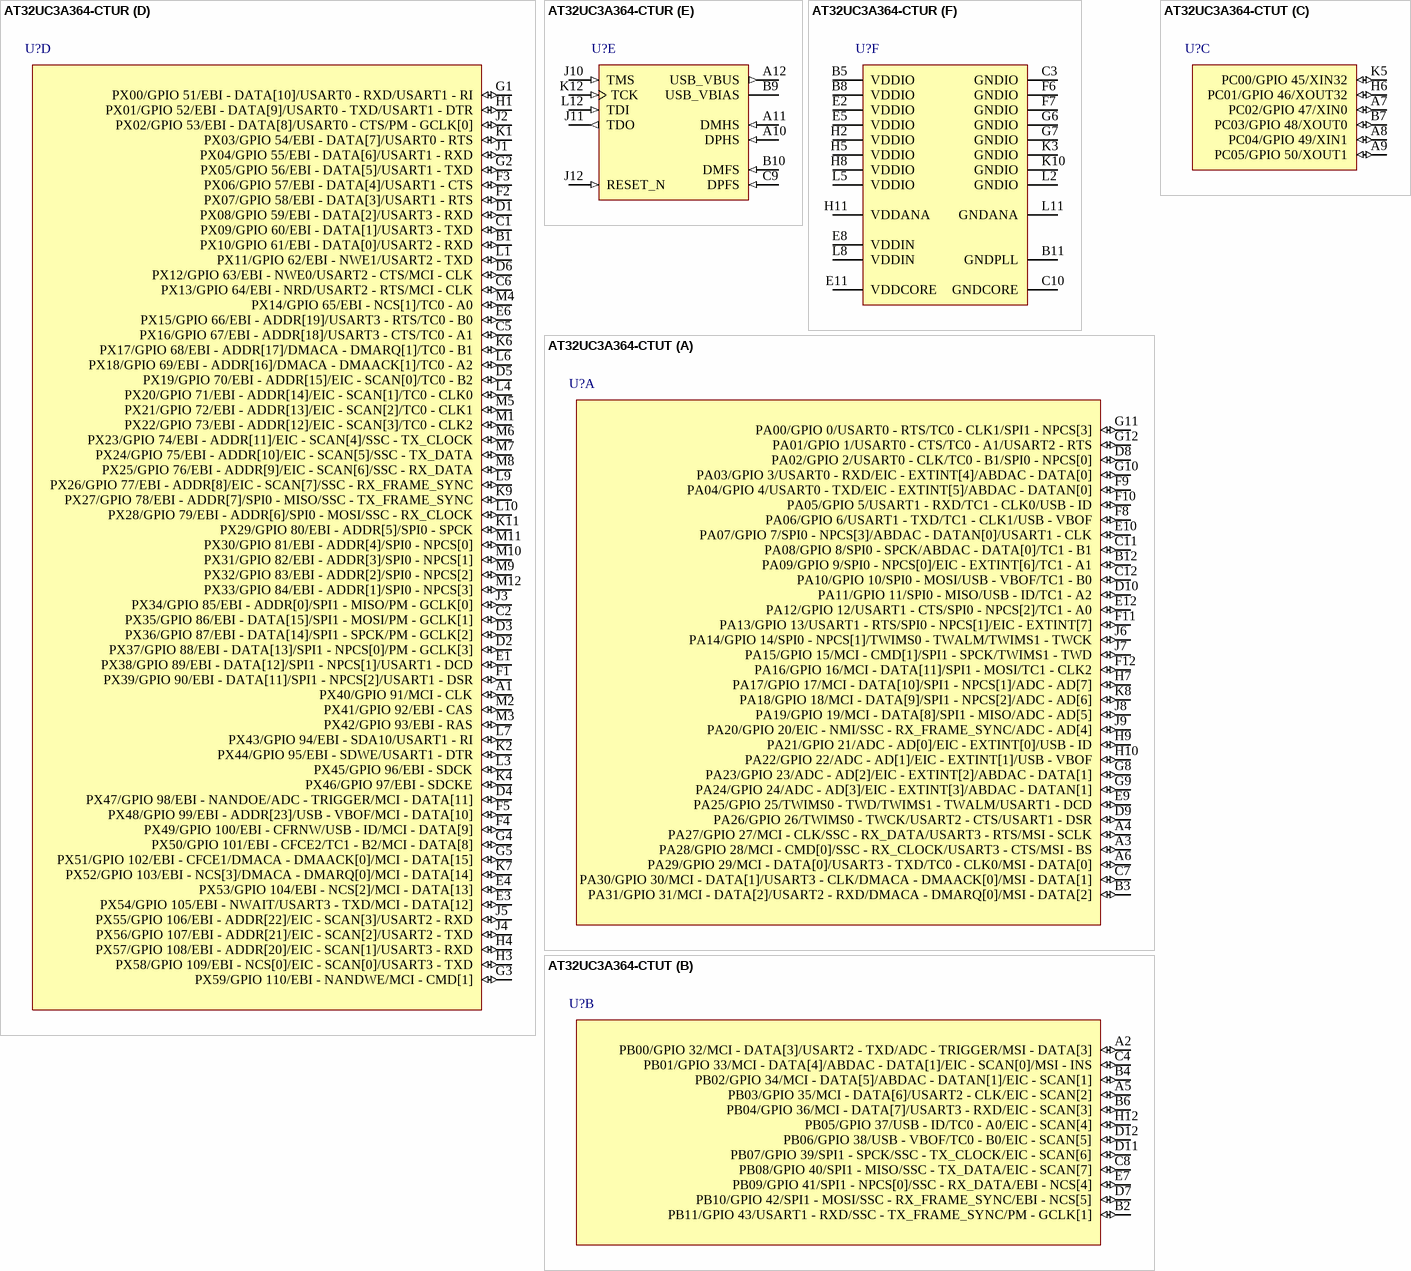
[diagram p11: symbols AT32UC3A364-CTUR to AT32UC3A364-CTUT]

## AT32UC3A364-CTUR
designator U?
32-bit AVR UC3 Microcontroller, 64KB Flash, 128KB SRAM, 144-Ball TFBGA, Industrial Grade, Reel; Published: 1-Apr-2010; DatasheetVersion: revC, Mar-2010; PackageVersion: 2009; PackageReference: FFBGA144; Publisher: Altium Limited; PackageDescription: 144-Ball Thin Fine Pitch BGA, 11 x 11 x 0.79 mm Body, 0.8 mm Pitch; Supplier 1: Digi-Key; Supplier Part Number 1: AT32UC3A364-CTUR-ND; Supplier 2: Mouser; Supplier Part Number 2: 556-AT32UC3A364-CTUR; Code_JEDEC: MS-026; ComponentLink1Description: Manufacturer Link; ComponentLink1URL: http://www.atmel.com/products/avr/default.asp?; ComponentLink2Description: AT32UC3A3/A4 Datasheet; ComponentLink2URL: http://www.atmel.com/dyn/resources/prod_documents/doc32072.pdf; ComponentLink3Description: AT32UC3A3/A4 Summary; ComponentLink3URL: http://www.atmel.com/dyn/resources/prod_documents/32072s.pdf; ComponentLink4Description: Atmel.com Home; ComponentLink4URL: http://www.atmel.com
footprint FFBGA144 (BGA, 144-Leads, Body 11x11mm, Pitch 0.8mm)
part A pins: A3 PA28/GPIO 28/MCI - CMD[0]/SSC - RX_CLOCK/USART3 - CTS/MSI - BS (io), A4 PA27/GPIO 27/MCI - CLK/SSC - RX_DATA/USART3 - RTS/MSI - SCLK (io), A6 PA29/GPIO 29/MCI - DATA[0]/USART3 - TXD/TC0 - CLK0/MSI - DATA[0] (io), B3 PA31/GPIO 31/MCI - DATA[2]/USART2 - RXD/DMACA - DMARQ[0]/MSI - DATA[2] (io), B12 PA09/GPIO 9/SPI0 - NPCS[0]/EIC - EXTINT[6]/TC1 - A1 (io), C7 PA30/GPIO 30/MCI - DATA[1]/USART3 - CLK/DMACA - DMAACK[0]/MSI - DATA[1] (io), C11 PA08/GPIO 8/SPI0 - SPCK/ABDAC - DATA[0]/TC1 - B1 (io), C12 PA10/GPIO 10/SPI0 - MOSI/USB - VBOF/TC1 - B0 (io), D8 PA02/GPIO 2/USART0 - CLK/TC0 - B1/SPI0 - NPCS[0] (io), D9 PA26/GPIO 26/TWIMS0 - TWCK/USART2 - CTS/USART1 - DSR (io), D10 PA11/GPIO 11/SPI0 - MISO/USB - ID/TC1 - A2 (io), E9 PA25/GPIO 25/TWIMS0 - TWD/TWIMS1 - TWALM/USART1 - DCD (io), E10 PA07/GPIO 7/SPI0 - NPCS[3]/ABDAC - DATAN[0]/USART1 - CLK (io), E12 PA12/GPIO 12/USART1 - CTS/SPI0 - NPCS[2]/TC1 - A0 (io), F8 PA06/GPIO 6/USART1 - TXD/TC1 - CLK1/USB - VBOF (io), F9 PA04/GPIO 4/USART0 - TXD/EIC - EXTINT[5]/ABDAC - DATAN[0] (io), F10 PA05/GPIO 5/USART1 - RXD/TC1 - CLK0/USB - ID (io), F11 PA13/GPIO 13/USART1 - RTS/SPI0 - NPCS[1]/EIC - EXTINT[7] (io), F12 PA16/GPIO 16/MCI - DATA[11]/SPI1 - MOSI/TC1 - CLK2 (io), G8 PA23/GPIO 23/ADC - AD[2]/EIC - EXTINT[2]/ABDAC - DATA[1] (io), G9 PA24/GPIO 24/ADC - AD[3]/EIC - EXTINT[3]/ABDAC - DATAN[1] (io), G10 PA03/GPIO 3/USART0 - RXD/EIC - EXTINT[4]/ABDAC - DATA[0] (io), G11 PA00/GPIO 0/USART0 - RTS/TC0 - CLK1/SPI1 - NPCS[3] (io), G12 PA01/GPIO 1/USART0 - CTS/TC0 - A1/USART2 - RTS (io), H7 PA17/GPIO 17/MCI - DATA[10]/SPI1 - NPCS[1]/ADC - AD[7] (io), H9 PA21/GPIO 21/ADC - AD[0]/EIC - EXTINT[0]/USB - ID (io), H10 PA22/GPIO 22/ADC - AD[1]/EIC - EXTINT[1]/USB - VBOF (io), J6 PA14/GPIO 14/SPI0 - NPCS[1]/TWIMS0 - TWALM/TWIMS1 - TWCK (io), J7 PA15/GPIO 15/MCI - CMD[1]/SPI1 - SPCK/TWIMS1 - TWD (io), J8 PA19/GPIO 19/MCI - DATA[8]/SPI1 - MISO/ADC - AD[5] (io), J9 PA20/GPIO 20/EIC - NMI/SSC - RX_FRAME_SYNC/ADC - AD[4] (io), K8 PA18/GPIO 18/MCI - DATA[9]/SPI1 - NPCS[2]/ADC - AD[6] (io)
part B pins: A2 PB00/GPIO 32/MCI - DATA[3]/USART2 - TXD/ADC - TRIGGER/MSI - DATA[3] (io), A5 PB03/GPIO 35/MCI - DATA[6]/USART2 - CLK/EIC - SCAN[2] (io), B2 PB11/GPIO 43/USART1 - RXD/SSC - TX_FRAME_SYNC/PM - GCLK[1] (io), B4 PB02/GPIO 34/MCI - DATA[5]/ABDAC - DATAN[1]/EIC - SCAN[1] (io), B6 PB04/GPIO 36/MCI - DATA[7]/USART3 - RXD/EIC - SCAN[3] (io), C4 PB01/GPIO 33/MCI - DATA[4]/ABDAC - DATA[1]/EIC - SCAN[0]/MSI - INS (io), C8 PB08/GPIO 40/SPI1 - MISO/SSC - TX_DATA/EIC - SCAN[7] (io), D7 PB10/GPIO 42/SPI1 - MOSI/SSC - RX_FRAME_SYNC/EBI - NCS[5] (io), D11 PB07/GPIO 39/SPI1 - SPCK/SSC - TX_CLOCK/EIC - SCAN[6] (io), D12 PB06/GPIO 38/USB - VBOF/TC0 - B0/EIC - SCAN[5] (io), E7 PB09/GPIO 41/SPI1 - NPCS[0]/SSC - RX_DATA/EBI - NCS[4] (io), H12 PB05/GPIO 37/USB - ID/TC0 - A0/EIC - SCAN[4] (io)
part C pins: A7 PC02/GPIO 47/XIN0 (io), A8 PC04/GPIO 49/XIN1 (io), A9 PC05/GPIO 50/XOUT1 (io), B7 PC03/GPIO 48/XOUT0 (io), H6 PC01/GPIO 46/XOUT32 (io), K5 PC00/GPIO 45/XIN32 (io)
part D pins: A1 PX40/GPIO 91/MCI - CLK (io), B1 PX10/GPIO 61/EBI - DATA[0]/USART2 - RXD (io), C1 PX09/GPIO 60/EBI - DATA[1]/USART3 - TXD (io), C2 PX35/GPIO 86/EBI - DATA[15]/SPI1 - MOSI/PM - GCLK[1] (io), C5 PX16/GPIO 67/EBI - ADDR[18]/USART3 - CTS/TC0 - A1 (io), C6 PX13/GPIO 64/EBI - NRD/USART2 - RTS/MCI - CLK (io), D1 PX08/GPIO 59/EBI - DATA[2]/USART3 - RXD (io), D2 PX37/GPIO 88/EBI - DATA[13]/SPI1 - NPCS[0]/PM - GCLK[3] (io), D3 PX36/GPIO 87/EBI - DATA[14]/SPI1 - SPCK/PM - GCLK[2] (io), D4 PX47/GPIO 98/EBI - NANDOE/ADC - TRIGGER/MCI - DATA[11] (io), D5 PX19/GPIO 70/EBI - ADDR[15]/EIC - SCAN[0]/TC0 - B2 (io), D6 PX12/GPIO 63/EBI - NWE0/USART2 - CTS/MCI - CLK (io), E1 PX38/GPIO 89/EBI - DATA[12]/SPI1 - NPCS[1]/USART1 - DCD (io), E3 PX54/GPIO 105/EBI - NWAIT/USART3 - TXD/MCI - DATA[12] (io), E4 PX53/GPIO 104/EBI - NCS[2]/MCI - DATA[13] (io), E6 PX15/GPIO 66/EBI - ADDR[19]/USART3 - RTS/TC0 - B0 (io), F1 PX39/GPIO 90/EBI - DATA[11]/SPI1 - NPCS[2]/USART1 - DSR (io), F2 PX07/GPIO 58/EBI - DATA[3]/USART1 - RTS (io), F3 PX06/GPIO 57/EBI - DATA[4]/USART1 - CTS (io), F4 PX49/GPIO 100/EBI - CFRNW/USB - ID/MCI - DATA[9] (io), F5 PX48/GPIO 99/EBI - ADDR[23]/USB - VBOF/MCI - DATA[10] (io), G1 PX00/GPIO 51/EBI - DATA[10]/USART0 - RXD/USART1 - RI (io), G2 PX05/GPIO 56/EBI - DATA[5]/USART1 - TXD (io), G3 PX59/GPIO 110/EBI - NANDWE/MCI - CMD[1] (io), G4 PX50/GPIO 101/EBI - CFCE2/TC1 - B2/MCI - DATA[8] (io), G5 PX51/GPIO 102/EBI - CFCE1/DMACA - DMAACK[0]/MCI - DATA[15] (io), H1 PX01/GPIO 52/EBI - DATA[9]/USART0 - TXD/USART1 - DTR (io), H3 PX58/GPIO 109/EBI - NCS[0]/EIC - SCAN[0]/USART3 - TXD (io), H4 PX57/GPIO 108/EBI - ADDR[20]/EIC - SCAN[1]/USART3 - RXD (io), J1 PX04/GPIO 55/EBI - DATA[6]/USART1 - RXD (io), J2 PX02/GPIO 53/EBI - DATA[8]/USART0 - CTS/PM - GCLK[0] (io), J3 PX34/GPIO 85/EBI - ADDR[0]/SPI1 - MISO/PM - GCLK[0] (io), J4 PX56/GPIO 107/EBI - ADDR[21]/EIC - SCAN[2]/USART2 - TXD (io), J5 PX55/GPIO 106/EBI - ADDR[22]/EIC - SCAN[3]/USART2 - RXD (io), K1 PX03/GPIO 54/EBI - DATA[7]/USART0 - RTS (io), K2 PX44/GPIO 95/EBI - SDWE/USART1 - DTR (io), K4 PX46/GPIO 97/EBI - SDCKE (io), K6 PX17/GPIO 68/EBI - ADDR[17]/DMACA - DMARQ[1]/TC0 - B1 (io), K7 PX52/GPIO 103/EBI - NCS[3]/DMACA - DMARQ[0]/MCI - DATA[14] (io), K9 PX27/GPIO 78/EBI - ADDR[7]/SPI0 - MISO/SSC - TX_FRAME_SYNC (io), K11 PX29/GPIO 80/EBI - ADDR[5]/SPI0 - SPCK (io), L1 PX11/GPIO 62/EBI - NWE1/USART2 - TXD (io), L3 PX45/GPIO 96/EBI - SDCK (io), L4 PX20/GPIO 71/EBI - ADDR[14]/EIC - SCAN[1]/TC0 - CLK0 (io), L6 PX18/GPIO 69/EBI - ADDR[16]/DMACA - DMAACK[1]/TC0 - A2 (io), L7 PX43/GPIO 94/EBI - SDA10/USART1 - RI (io), L9 PX26/GPIO 77/EBI - ADDR[8]/EIC - SCAN[7]/SSC - RX_FRAME_SYNC (io), L10 PX28/GPIO 79/EBI - ADDR[6]/SPI0 - MOSI/SSC - RX_CLOCK (io), M1 PX22/GPIO 73/EBI - ADDR[12]/EIC - SCAN[3]/TC0 - CLK2 (io), M2 PX41/GPIO 92/EBI - CAS (io), M3 PX42/GPIO 93/EBI - RAS (io), M4 PX14/GPIO 65/EBI - NCS[1]/TC0 - A0 (io), M5 PX21/GPIO 72/EBI - ADDR[13]/EIC - SCAN[2]/TC0 - CLK1 (io), M6 PX23/GPIO 74/EBI - ADDR[11]/EIC - SCAN[4]/SSC - TX_CLOCK (io), M7 PX24/GPIO 75/EBI - ADDR[10]/EIC - SCAN[5]/SSC - TX_DATA (io), M8 PX25/GPIO 76/EBI - ADDR[9]/EIC - SCAN[6]/SSC - RX_DATA (io), M9 PX32/GPIO 83/EBI - ADDR[2]/SPI0 - NPCS[2] (io), M10 PX31/GPIO 82/EBI - ADDR[3]/SPI0 - NPCS[1] (io), M11 PX30/GPIO 81/EBI - ADDR[4]/SPI0 - NPCS[0] (io), M12 PX33/GPIO 84/EBI - ADDR[1]/SPI0 - NPCS[3] (io)
part E pins: A10 DPHS (in), A11 DMHS (in), A12 USB_VBUS (out), B9 USB_VBIAS, B10 DMFS (in), C9 DPFS (in), J10 TMS (in), J11 TDO (out), J12 RESET_N (in), K12 TCK (in), L12 TDI (in)
part F pins: B5 VDDIO (power), B8 VDDIO (power), B11 GNDPLL (power), C3 GNDIO (power), C10 GNDCORE (power), E2 VDDIO (power), E5 VDDIO (power), E8 VDDIN (power), E11 VDDCORE (power), F6 GNDIO (power), F7 GNDIO (power), G6 GNDIO (power), G7 GNDIO (power), H2 VDDIO (power), H5 VDDIO (power), H8 VDDIO (power), H11 VDDANA (power), K3 GNDIO (power), K10 GNDIO (power), L2 GNDIO (power), L5 VDDIO (power), L8 VDDIN (power), L11 GNDANA (power)

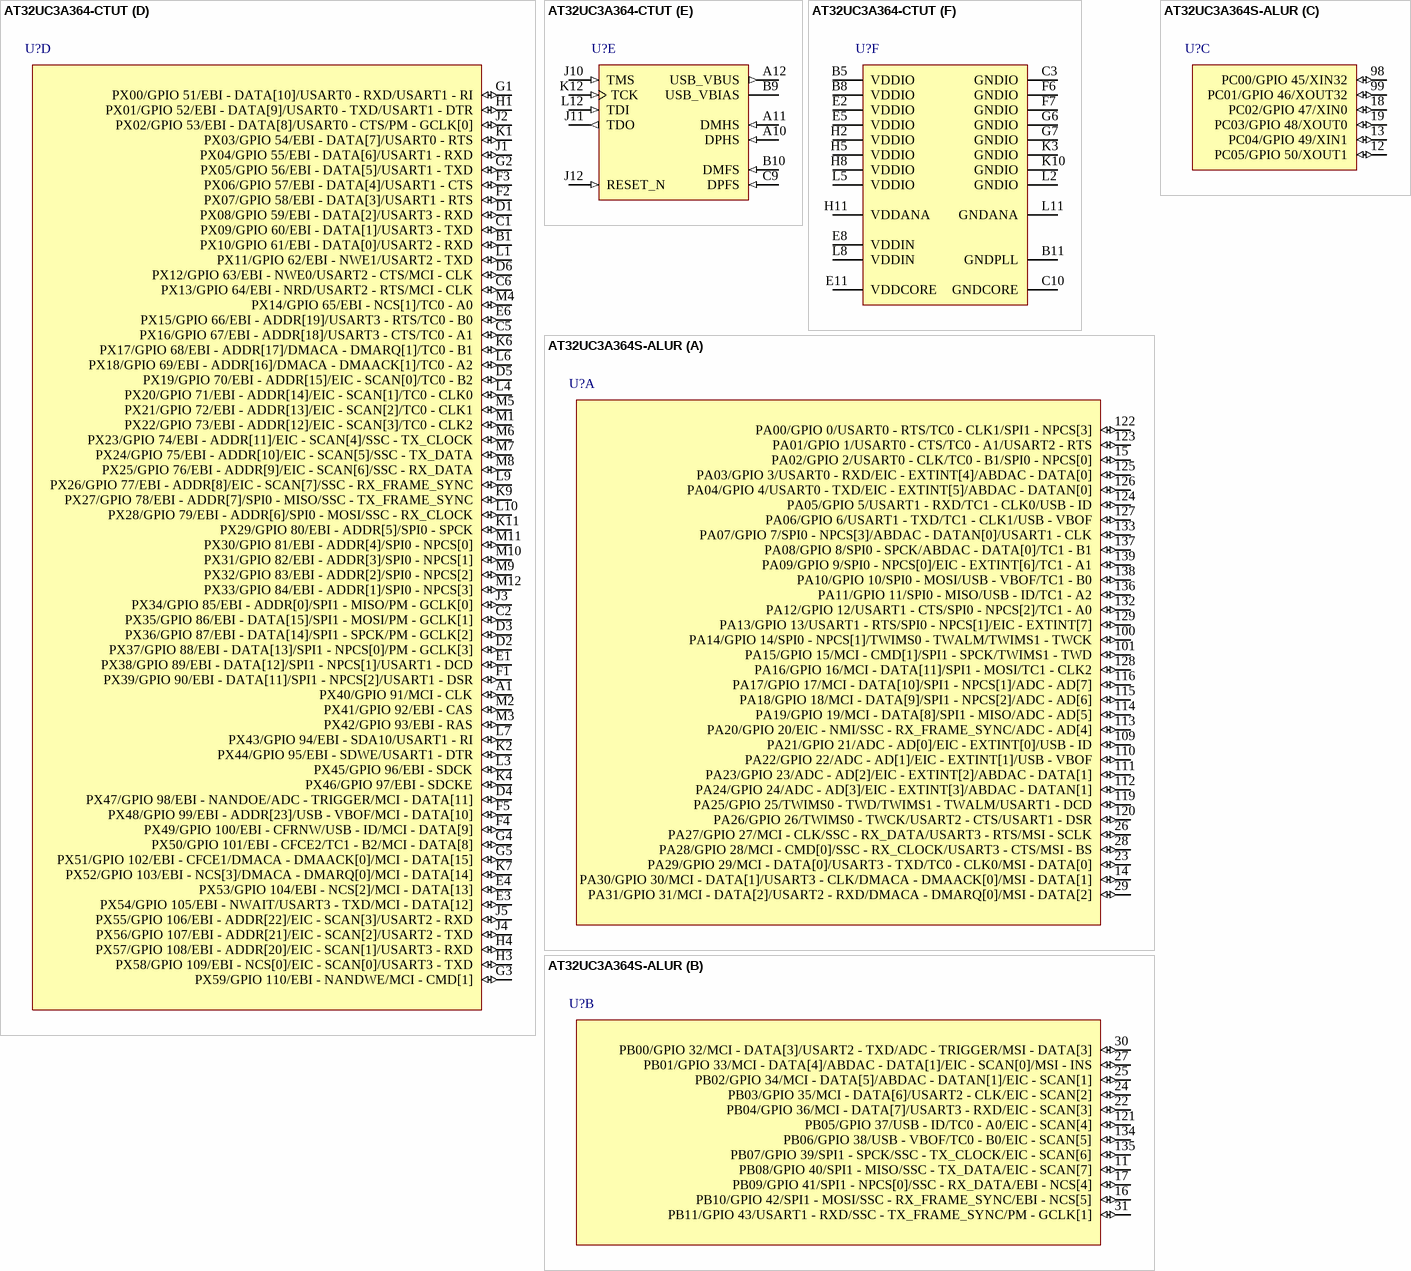
[diagram p12: symbols AT32UC3A364-CTUT to AT32UC3A364S-ALUR]

## AT32UC3A364-CTUT
designator U?
32-bit AVR UC3 Microcontroller, 64KB Flash, 128KB SRAM, 144-Ball TFBGA, Industrial Grade, Tray; Published: 1-Apr-2010; DatasheetVersion: revC, Mar-2010; PackageVersion: 2009; PackageReference: FFBGA144; Publisher: Altium Limited; PackageDescription: 144-Ball Thin Fine Pitch BGA, 11 x 11 x 0.79 mm Body, 0.8 mm Pitch; Supplier 1: Digi-Key; Supplier Part Number 1: AT32UC3A364-CTUT-ND; Supplier 2: Mouser; Supplier Part Number 2: 556-AT32UC3A364-CTUT; Code_JEDEC: MS-026; ComponentLink1Description: Manufacturer Link; ComponentLink1URL: http://www.atmel.com/products/avr/default.asp?; ComponentLink2Description: AT32UC3A3/A4 Datasheet; ComponentLink2URL: http://www.atmel.com/dyn/resources/prod_documents/doc32072.pdf; ComponentLink3Description: AT32UC3A3/A4 Summary; ComponentLink3URL: http://www.atmel.com/dyn/resources/prod_documents/32072s.pdf; ComponentLink4Description: Atmel.com Home; ComponentLink4URL: http://www.atmel.com
footprint FFBGA144 (BGA, 144-Leads, Body 11x11mm, Pitch 0.8mm)
part A pins: A3 PA28/GPIO 28/MCI - CMD[0]/SSC - RX_CLOCK/USART3 - CTS/MSI - BS (io), A4 PA27/GPIO 27/MCI - CLK/SSC - RX_DATA/USART3 - RTS/MSI - SCLK (io), A6 PA29/GPIO 29/MCI - DATA[0]/USART3 - TXD/TC0 - CLK0/MSI - DATA[0] (io), B3 PA31/GPIO 31/MCI - DATA[2]/USART2 - RXD/DMACA - DMARQ[0]/MSI - DATA[2] (io), B12 PA09/GPIO 9/SPI0 - NPCS[0]/EIC - EXTINT[6]/TC1 - A1 (io), C7 PA30/GPIO 30/MCI - DATA[1]/USART3 - CLK/DMACA - DMAACK[0]/MSI - DATA[1] (io), C11 PA08/GPIO 8/SPI0 - SPCK/ABDAC - DATA[0]/TC1 - B1 (io), C12 PA10/GPIO 10/SPI0 - MOSI/USB - VBOF/TC1 - B0 (io), D8 PA02/GPIO 2/USART0 - CLK/TC0 - B1/SPI0 - NPCS[0] (io), D9 PA26/GPIO 26/TWIMS0 - TWCK/USART2 - CTS/USART1 - DSR (io), D10 PA11/GPIO 11/SPI0 - MISO/USB - ID/TC1 - A2 (io), E9 PA25/GPIO 25/TWIMS0 - TWD/TWIMS1 - TWALM/USART1 - DCD (io), E10 PA07/GPIO 7/SPI0 - NPCS[3]/ABDAC - DATAN[0]/USART1 - CLK (io), E12 PA12/GPIO 12/USART1 - CTS/SPI0 - NPCS[2]/TC1 - A0 (io), F8 PA06/GPIO 6/USART1 - TXD/TC1 - CLK1/USB - VBOF (io), F9 PA04/GPIO 4/USART0 - TXD/EIC - EXTINT[5]/ABDAC - DATAN[0] (io), F10 PA05/GPIO 5/USART1 - RXD/TC1 - CLK0/USB - ID (io), F11 PA13/GPIO 13/USART1 - RTS/SPI0 - NPCS[1]/EIC - EXTINT[7] (io), F12 PA16/GPIO 16/MCI - DATA[11]/SPI1 - MOSI/TC1 - CLK2 (io), G8 PA23/GPIO 23/ADC - AD[2]/EIC - EXTINT[2]/ABDAC - DATA[1] (io), G9 PA24/GPIO 24/ADC - AD[3]/EIC - EXTINT[3]/ABDAC - DATAN[1] (io), G10 PA03/GPIO 3/USART0 - RXD/EIC - EXTINT[4]/ABDAC - DATA[0] (io), G11 PA00/GPIO 0/USART0 - RTS/TC0 - CLK1/SPI1 - NPCS[3] (io), G12 PA01/GPIO 1/USART0 - CTS/TC0 - A1/USART2 - RTS (io), H7 PA17/GPIO 17/MCI - DATA[10]/SPI1 - NPCS[1]/ADC - AD[7] (io), H9 PA21/GPIO 21/ADC - AD[0]/EIC - EXTINT[0]/USB - ID (io), H10 PA22/GPIO 22/ADC - AD[1]/EIC - EXTINT[1]/USB - VBOF (io), J6 PA14/GPIO 14/SPI0 - NPCS[1]/TWIMS0 - TWALM/TWIMS1 - TWCK (io), J7 PA15/GPIO 15/MCI - CMD[1]/SPI1 - SPCK/TWIMS1 - TWD (io), J8 PA19/GPIO 19/MCI - DATA[8]/SPI1 - MISO/ADC - AD[5] (io), J9 PA20/GPIO 20/EIC - NMI/SSC - RX_FRAME_SYNC/ADC - AD[4] (io), K8 PA18/GPIO 18/MCI - DATA[9]/SPI1 - NPCS[2]/ADC - AD[6] (io)
part B pins: A2 PB00/GPIO 32/MCI - DATA[3]/USART2 - TXD/ADC - TRIGGER/MSI - DATA[3] (io), A5 PB03/GPIO 35/MCI - DATA[6]/USART2 - CLK/EIC - SCAN[2] (io), B2 PB11/GPIO 43/USART1 - RXD/SSC - TX_FRAME_SYNC/PM - GCLK[1] (io), B4 PB02/GPIO 34/MCI - DATA[5]/ABDAC - DATAN[1]/EIC - SCAN[1] (io), B6 PB04/GPIO 36/MCI - DATA[7]/USART3 - RXD/EIC - SCAN[3] (io), C4 PB01/GPIO 33/MCI - DATA[4]/ABDAC - DATA[1]/EIC - SCAN[0]/MSI - INS (io), C8 PB08/GPIO 40/SPI1 - MISO/SSC - TX_DATA/EIC - SCAN[7] (io), D7 PB10/GPIO 42/SPI1 - MOSI/SSC - RX_FRAME_SYNC/EBI - NCS[5] (io), D11 PB07/GPIO 39/SPI1 - SPCK/SSC - TX_CLOCK/EIC - SCAN[6] (io), D12 PB06/GPIO 38/USB - VBOF/TC0 - B0/EIC - SCAN[5] (io), E7 PB09/GPIO 41/SPI1 - NPCS[0]/SSC - RX_DATA/EBI - NCS[4] (io), H12 PB05/GPIO 37/USB - ID/TC0 - A0/EIC - SCAN[4] (io)
part C pins: A7 PC02/GPIO 47/XIN0 (io), A8 PC04/GPIO 49/XIN1 (io), A9 PC05/GPIO 50/XOUT1 (io), B7 PC03/GPIO 48/XOUT0 (io), H6 PC01/GPIO 46/XOUT32 (io), K5 PC00/GPIO 45/XIN32 (io)
part D pins: A1 PX40/GPIO 91/MCI - CLK (io), B1 PX10/GPIO 61/EBI - DATA[0]/USART2 - RXD (io), C1 PX09/GPIO 60/EBI - DATA[1]/USART3 - TXD (io), C2 PX35/GPIO 86/EBI - DATA[15]/SPI1 - MOSI/PM - GCLK[1] (io), C5 PX16/GPIO 67/EBI - ADDR[18]/USART3 - CTS/TC0 - A1 (io), C6 PX13/GPIO 64/EBI - NRD/USART2 - RTS/MCI - CLK (io), D1 PX08/GPIO 59/EBI - DATA[2]/USART3 - RXD (io), D2 PX37/GPIO 88/EBI - DATA[13]/SPI1 - NPCS[0]/PM - GCLK[3] (io), D3 PX36/GPIO 87/EBI - DATA[14]/SPI1 - SPCK/PM - GCLK[2] (io), D4 PX47/GPIO 98/EBI - NANDOE/ADC - TRIGGER/MCI - DATA[11] (io), D5 PX19/GPIO 70/EBI - ADDR[15]/EIC - SCAN[0]/TC0 - B2 (io), D6 PX12/GPIO 63/EBI - NWE0/USART2 - CTS/MCI - CLK (io), E1 PX38/GPIO 89/EBI - DATA[12]/SPI1 - NPCS[1]/USART1 - DCD (io), E3 PX54/GPIO 105/EBI - NWAIT/USART3 - TXD/MCI - DATA[12] (io), E4 PX53/GPIO 104/EBI - NCS[2]/MCI - DATA[13] (io), E6 PX15/GPIO 66/EBI - ADDR[19]/USART3 - RTS/TC0 - B0 (io), F1 PX39/GPIO 90/EBI - DATA[11]/SPI1 - NPCS[2]/USART1 - DSR (io), F2 PX07/GPIO 58/EBI - DATA[3]/USART1 - RTS (io), F3 PX06/GPIO 57/EBI - DATA[4]/USART1 - CTS (io), F4 PX49/GPIO 100/EBI - CFRNW/USB - ID/MCI - DATA[9] (io), F5 PX48/GPIO 99/EBI - ADDR[23]/USB - VBOF/MCI - DATA[10] (io), G1 PX00/GPIO 51/EBI - DATA[10]/USART0 - RXD/USART1 - RI (io), G2 PX05/GPIO 56/EBI - DATA[5]/USART1 - TXD (io), G3 PX59/GPIO 110/EBI - NANDWE/MCI - CMD[1] (io), G4 PX50/GPIO 101/EBI - CFCE2/TC1 - B2/MCI - DATA[8] (io), G5 PX51/GPIO 102/EBI - CFCE1/DMACA - DMAACK[0]/MCI - DATA[15] (io), H1 PX01/GPIO 52/EBI - DATA[9]/USART0 - TXD/USART1 - DTR (io), H3 PX58/GPIO 109/EBI - NCS[0]/EIC - SCAN[0]/USART3 - TXD (io), H4 PX57/GPIO 108/EBI - ADDR[20]/EIC - SCAN[1]/USART3 - RXD (io), J1 PX04/GPIO 55/EBI - DATA[6]/USART1 - RXD (io), J2 PX02/GPIO 53/EBI - DATA[8]/USART0 - CTS/PM - GCLK[0] (io), J3 PX34/GPIO 85/EBI - ADDR[0]/SPI1 - MISO/PM - GCLK[0] (io), J4 PX56/GPIO 107/EBI - ADDR[21]/EIC - SCAN[2]/USART2 - TXD (io), J5 PX55/GPIO 106/EBI - ADDR[22]/EIC - SCAN[3]/USART2 - RXD (io), K1 PX03/GPIO 54/EBI - DATA[7]/USART0 - RTS (io), K2 PX44/GPIO 95/EBI - SDWE/USART1 - DTR (io), K4 PX46/GPIO 97/EBI - SDCKE (io), K6 PX17/GPIO 68/EBI - ADDR[17]/DMACA - DMARQ[1]/TC0 - B1 (io), K7 PX52/GPIO 103/EBI - NCS[3]/DMACA - DMARQ[0]/MCI - DATA[14] (io), K9 PX27/GPIO 78/EBI - ADDR[7]/SPI0 - MISO/SSC - TX_FRAME_SYNC (io), K11 PX29/GPIO 80/EBI - ADDR[5]/SPI0 - SPCK (io), L1 PX11/GPIO 62/EBI - NWE1/USART2 - TXD (io), L3 PX45/GPIO 96/EBI - SDCK (io), L4 PX20/GPIO 71/EBI - ADDR[14]/EIC - SCAN[1]/TC0 - CLK0 (io), L6 PX18/GPIO 69/EBI - ADDR[16]/DMACA - DMAACK[1]/TC0 - A2 (io), L7 PX43/GPIO 94/EBI - SDA10/USART1 - RI (io), L9 PX26/GPIO 77/EBI - ADDR[8]/EIC - SCAN[7]/SSC - RX_FRAME_SYNC (io), L10 PX28/GPIO 79/EBI - ADDR[6]/SPI0 - MOSI/SSC - RX_CLOCK (io), M1 PX22/GPIO 73/EBI - ADDR[12]/EIC - SCAN[3]/TC0 - CLK2 (io), M2 PX41/GPIO 92/EBI - CAS (io), M3 PX42/GPIO 93/EBI - RAS (io), M4 PX14/GPIO 65/EBI - NCS[1]/TC0 - A0 (io), M5 PX21/GPIO 72/EBI - ADDR[13]/EIC - SCAN[2]/TC0 - CLK1 (io), M6 PX23/GPIO 74/EBI - ADDR[11]/EIC - SCAN[4]/SSC - TX_CLOCK (io), M7 PX24/GPIO 75/EBI - ADDR[10]/EIC - SCAN[5]/SSC - TX_DATA (io), M8 PX25/GPIO 76/EBI - ADDR[9]/EIC - SCAN[6]/SSC - RX_DATA (io), M9 PX32/GPIO 83/EBI - ADDR[2]/SPI0 - NPCS[2] (io), M10 PX31/GPIO 82/EBI - ADDR[3]/SPI0 - NPCS[1] (io), M11 PX30/GPIO 81/EBI - ADDR[4]/SPI0 - NPCS[0] (io), M12 PX33/GPIO 84/EBI - ADDR[1]/SPI0 - NPCS[3] (io)
part E pins: A10 DPHS (in), A11 DMHS (in), A12 USB_VBUS (out), B9 USB_VBIAS, B10 DMFS (in), C9 DPFS (in), J10 TMS (in), J11 TDO (out), J12 RESET_N (in), K12 TCK (in), L12 TDI (in)
part F pins: B5 VDDIO (power), B8 VDDIO (power), B11 GNDPLL (power), C3 GNDIO (power), C10 GNDCORE (power), E2 VDDIO (power), E5 VDDIO (power), E8 VDDIN (power), E11 VDDCORE (power), F6 GNDIO (power), F7 GNDIO (power), G6 GNDIO (power), G7 GNDIO (power), H2 VDDIO (power), H5 VDDIO (power), H8 VDDIO (power), H11 VDDANA (power), K3 GNDIO (power), K10 GNDIO (power), L2 GNDIO (power), L5 VDDIO (power), L8 VDDIN (power), L11 GNDANA (power)

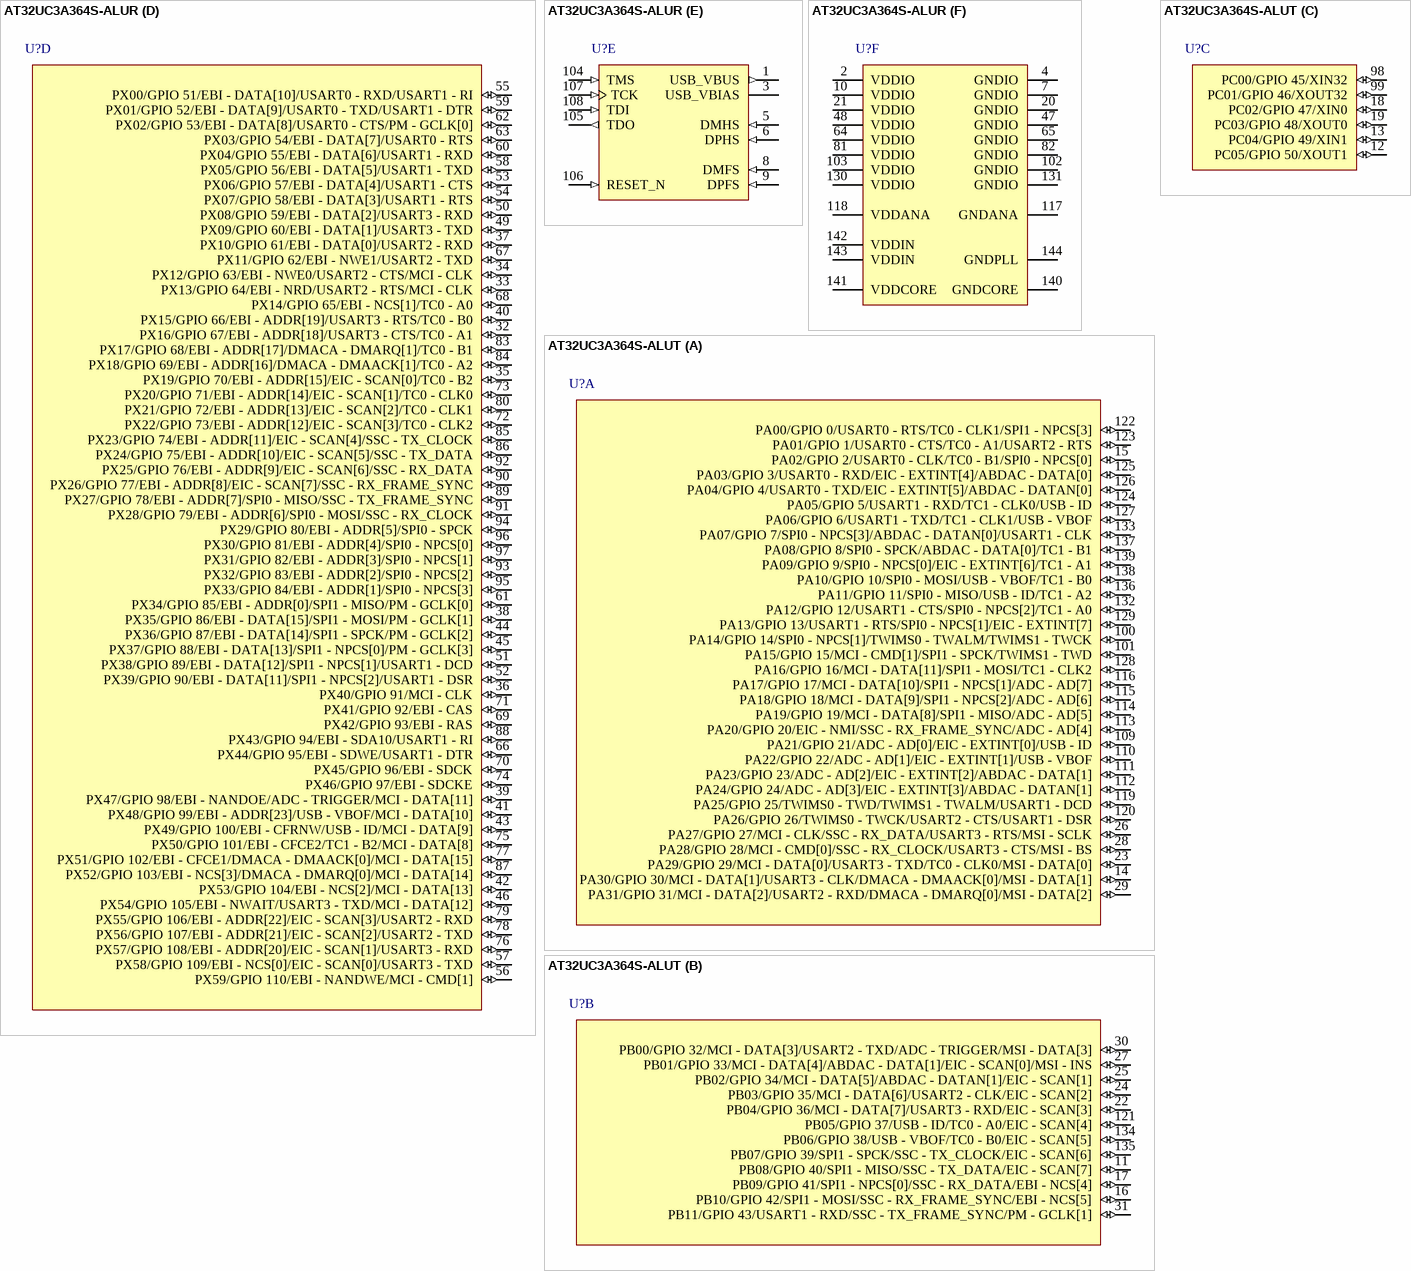
[diagram p13: symbols AT32UC3A364S-ALUR to AT32UC3A364S-ALUT]

## AT32UC3A364S-ALUR
designator U?
32-bit AVR UC3 Microcontroller, 64KB Flash, 128KB SRAM, 110 GPIO pins, Crypto, 144-Pin LQFP, Industrial Grade, Reel; Published: 1-Apr-2010; DatasheetVersion: revC, Mar-2010; PackageVersion: rev.C, Oct-2001; PackageReference: 144AA; Publisher: Altium Limited; PackageDescription: 144-Pin Thin Quad Flat Pack 0.5 mm Pitch; Supplier 1: Digi-Key; Supplier Part Number 1: AT32UC3A364S-ALUR-ND; Supplier 2: Mouser; Supplier Part Number 2: 556-AT32UC3A364SALUR; Code_JEDEC: MS-026-BFB; ComponentLink1Description: Manufacturer Link; ComponentLink1URL: http://www.atmel.com/products/avr/default.asp?; ComponentLink2Description: AT32UC3A3/A4 Datasheet; ComponentLink2URL: http://www.atmel.com/dyn/resources/prod_documents/doc32072.pdf; ComponentLink3Description: AT32UC3A3/A4 Summary; ComponentLink3URL: http://www.atmel.com/dyn/resources/prod_documents/32072s.pdf; ComponentLink4Description: Atmel.com Home; ComponentLink4URL: http://www.atmel.com
footprint 144AA_N (Thin QFP, 144-Leads, Body 20x20mm, Pitch 0.5mm, IPC Medium Density)
footprint 144AA_L (Thin QFP, 144-Leads, Body 20x20mm, Pitch 0.5mm, IPC High Density)
footprint 144AA_M (Thin QFP, 144-Leads, Body 20x20mm, Pitch 0.5mm, IPC Low Density)
part A pins: 14 PA30/GPIO 30/MCI - DATA[1]/USART3 - CLK/DMACA - DMAACK[0]/MSI - DATA[1] (io), 15 PA02/GPIO 2/USART0 - CLK/TC0 - B1/SPI0 - NPCS[0] (io), 23 PA29/GPIO 29/MCI - DATA[0]/USART3 - TXD/TC0 - CLK0/MSI - DATA[0] (io), 26 PA27/GPIO 27/MCI - CLK/SSC - RX_DATA/USART3 - RTS/MSI - SCLK (io), 28 PA28/GPIO 28/MCI - CMD[0]/SSC - RX_CLOCK/USART3 - CTS/MSI - BS (io), 29 PA31/GPIO 31/MCI - DATA[2]/USART2 - RXD/DMACA - DMARQ[0]/MSI - DATA[2] (io), 100 PA14/GPIO 14/SPI0 - NPCS[1]/TWIMS0 - TWALM/TWIMS1 - TWCK (io), 101 PA15/GPIO 15/MCI - CMD[1]/SPI1 - SPCK/TWIMS1 - TWD (io), 109 PA21/GPIO 21/ADC - AD[0]/EIC - EXTINT[0]/USB - ID (io), 110 PA22/GPIO 22/ADC - AD[1]/EIC - EXTINT[1]/USB - VBOF (io), 111 PA23/GPIO 23/ADC - AD[2]/EIC - EXTINT[2]/ABDAC - DATA[1] (io), 112 PA24/GPIO 24/ADC - AD[3]/EIC - EXTINT[3]/ABDAC - DATAN[1] (io), 113 PA20/GPIO 20/EIC - NMI/SSC - RX_FRAME_SYNC/ADC - AD[4] (io), 114 PA19/GPIO 19/MCI - DATA[8]/SPI1 - MISO/ADC - AD[5] (io), 115 PA18/GPIO 18/MCI - DATA[9]/SPI1 - NPCS[2]/ADC - AD[6] (io), 116 PA17/GPIO 17/MCI - DATA[10]/SPI1 - NPCS[1]/ADC - AD[7] (io), 119 PA25/GPIO 25/TWIMS0 - TWD/TWIMS1 - TWALM/USART1 - DCD (io), 120 PA26/GPIO 26/TWIMS0 - TWCK/USART2 - CTS/USART1 - DSR (io), 122 PA00/GPIO 0/USART0 - RTS/TC0 - CLK1/SPI1 - NPCS[3] (io), 123 PA01/GPIO 1/USART0 - CTS/TC0 - A1/USART2 - RTS (io), 124 PA05/GPIO 5/USART1 - RXD/TC1 - CLK0/USB - ID (io), 125 PA03/GPIO 3/USART0 - RXD/EIC - EXTINT[4]/ABDAC - DATA[0] (io), 126 PA04/GPIO 4/USART0 - TXD/EIC - EXTINT[5]/ABDAC - DATAN[0] (io), 127 PA06/GPIO 6/USART1 - TXD/TC1 - CLK1/USB - VBOF (io), 128 PA16/GPIO 16/MCI - DATA[11]/SPI1 - MOSI/TC1 - CLK2 (io), 129 PA13/GPIO 13/USART1 - RTS/SPI0 - NPCS[1]/EIC - EXTINT[7] (io), 132 PA12/GPIO 12/USART1 - CTS/SPI0 - NPCS[2]/TC1 - A0 (io), 133 PA07/GPIO 7/SPI0 - NPCS[3]/ABDAC - DATAN[0]/USART1 - CLK (io), 136 PA11/GPIO 11/SPI0 - MISO/USB - ID/TC1 - A2 (io), 137 PA08/GPIO 8/SPI0 - SPCK/ABDAC - DATA[0]/TC1 - B1 (io), 138 PA10/GPIO 10/SPI0 - MOSI/USB - VBOF/TC1 - B0 (io), 139 PA09/GPIO 9/SPI0 - NPCS[0]/EIC - EXTINT[6]/TC1 - A1 (io)
part B pins: 11 PB08/GPIO 40/SPI1 - MISO/SSC - TX_DATA/EIC - SCAN[7] (io), 16 PB10/GPIO 42/SPI1 - MOSI/SSC - RX_FRAME_SYNC/EBI - NCS[5] (io), 17 PB09/GPIO 41/SPI1 - NPCS[0]/SSC - RX_DATA/EBI - NCS[4] (io), 22 PB04/GPIO 36/MCI - DATA[7]/USART3 - RXD/EIC - SCAN[3] (io), 24 PB03/GPIO 35/MCI - DATA[6]/USART2 - CLK/EIC - SCAN[2] (io), 25 PB02/GPIO 34/MCI - DATA[5]/ABDAC - DATAN[1]/EIC - SCAN[1] (io), 27 PB01/GPIO 33/MCI - DATA[4]/ABDAC - DATA[1]/EIC - SCAN[0]/MSI - INS (io), 30 PB00/GPIO 32/MCI - DATA[3]/USART2 - TXD/ADC - TRIGGER/MSI - DATA[3] (io), 31 PB11/GPIO 43/USART1 - RXD/SSC - TX_FRAME_SYNC/PM - GCLK[1] (io), 121 PB05/GPIO 37/USB - ID/TC0 - A0/EIC - SCAN[4] (io), 134 PB06/GPIO 38/USB - VBOF/TC0 - B0/EIC - SCAN[5] (io), 135 PB07/GPIO 39/SPI1 - SPCK/SSC - TX_CLOCK/EIC - SCAN[6] (io)
part C pins: 12 PC05/GPIO 50/XOUT1 (io), 13 PC04/GPIO 49/XIN1 (io), 18 PC02/GPIO 47/XIN0 (io), 19 PC03/GPIO 48/XOUT0 (io), 98 PC00/GPIO 45/XIN32 (io), 99 PC01/GPIO 46/XOUT32 (io)
part D pins: 32 PX16/GPIO 67/EBI - ADDR[18]/USART3 - CTS/TC0 - A1 (io), 33 PX13/GPIO 64/EBI - NRD/USART2 - RTS/MCI - CLK (io), 34 PX12/GPIO 63/EBI - NWE0/USART2 - CTS/MCI - CLK (io), 35 PX19/GPIO 70/EBI - ADDR[15]/EIC - SCAN[0]/TC0 - B2 (io), 36 PX40/GPIO 91/MCI - CLK (io), 37 PX10/GPIO 61/EBI - DATA[0]/USART2 - RXD (io), 38 PX35/GPIO 86/EBI - DATA[15]/SPI1 - MOSI/PM - GCLK[1] (io), 39 PX47/GPIO 98/EBI - NANDOE/ADC - TRIGGER/MCI - DATA[11] (io), 40 PX15/GPIO 66/EBI - ADDR[19]/USART3 - RTS/TC0 - B0 (io), 41 PX48/GPIO 99/EBI - ADDR[23]/USB - VBOF/MCI - DATA[10] (io), 42 PX53/GPIO 104/EBI - NCS[2]/MCI - DATA[13] (io), 43 PX49/GPIO 100/EBI - CFRNW/USB - ID/MCI - DATA[9] (io), 44 PX36/GPIO 87/EBI - DATA[14]/SPI1 - SPCK/PM - GCLK[2] (io), 45 PX37/GPIO 88/EBI - DATA[13]/SPI1 - NPCS[0]/PM - GCLK[3] (io), 46 PX54/GPIO 105/EBI - NWAIT/USART3 - TXD/MCI - DATA[12] (io), 49 PX09/GPIO 60/EBI - DATA[1]/USART3 - TXD (io), 50 PX08/GPIO 59/EBI - DATA[2]/USART3 - RXD (io), 51 PX38/GPIO 89/EBI - DATA[12]/SPI1 - NPCS[1]/USART1 - DCD (io), 52 PX39/GPIO 90/EBI - DATA[11]/SPI1 - NPCS[2]/USART1 - DSR (io), 53 PX06/GPIO 57/EBI - DATA[4]/USART1 - CTS (io), 54 PX07/GPIO 58/EBI - DATA[3]/USART1 - RTS (io), 55 PX00/GPIO 51/EBI - DATA[10]/USART0 - RXD/USART1 - RI (io), 56 PX59/GPIO 110/EBI - NANDWE/MCI - CMD[1] (io), 57 PX58/GPIO 109/EBI - NCS[0]/EIC - SCAN[0]/USART3 - TXD (io), 58 PX05/GPIO 56/EBI - DATA[5]/USART1 - TXD (io), 59 PX01/GPIO 52/EBI - DATA[9]/USART0 - TXD/USART1 - DTR (io), 60 PX04/GPIO 55/EBI - DATA[6]/USART1 - RXD (io), 61 PX34/GPIO 85/EBI - ADDR[0]/SPI1 - MISO/PM - GCLK[0] (io), 62 PX02/GPIO 53/EBI - DATA[8]/USART0 - CTS/PM - GCLK[0] (io), 63 PX03/GPIO 54/EBI - DATA[7]/USART0 - RTS (io), 66 PX44/GPIO 95/EBI - SDWE/USART1 - DTR (io), 67 PX11/GPIO 62/EBI - NWE1/USART2 - TXD (io), 68 PX14/GPIO 65/EBI - NCS[1]/TC0 - A0 (io), 69 PX42/GPIO 93/EBI - RAS (io), 70 PX45/GPIO 96/EBI - SDCK (io), 71 PX41/GPIO 92/EBI - CAS (io), 72 PX22/GPIO 73/EBI - ADDR[12]/EIC - SCAN[3]/TC0 - CLK2 (io), 73 PX20/GPIO 71/EBI - ADDR[14]/EIC - SCAN[1]/TC0 - CLK0 (io), 74 PX46/GPIO 97/EBI - SDCKE (io), 75 PX50/GPIO 101/EBI - CFCE2/TC1 - B2/MCI - DATA[8] (io), 76 PX57/GPIO 108/EBI - ADDR[20]/EIC - SCAN[1]/USART3 - RXD (io), 77 PX51/GPIO 102/EBI - CFCE1/DMACA - DMAACK[0]/MCI - DATA[15] (io), 78 PX56/GPIO 107/EBI - ADDR[21]/EIC - SCAN[2]/USART2 - TXD (io), 79 PX55/GPIO 106/EBI - ADDR[22]/EIC - SCAN[3]/USART2 - RXD (io), 80 PX21/GPIO 72/EBI - ADDR[13]/EIC - SCAN[2]/TC0 - CLK1 (io), 83 PX17/GPIO 68/EBI - ADDR[17]/DMACA - DMARQ[1]/TC0 - B1 (io), 84 PX18/GPIO 69/EBI - ADDR[16]/DMACA - DMAACK[1]/TC0 - A2 (io), 85 PX23/GPIO 74/EBI - ADDR[11]/EIC - SCAN[4]/SSC - TX_CLOCK (io), 86 PX24/GPIO 75/EBI - ADDR[10]/EIC - SCAN[5]/SSC - TX_DATA (io), 87 PX52/GPIO 103/EBI - NCS[3]/DMACA - DMARQ[0]/MCI - DATA[14] (io), 88 PX43/GPIO 94/EBI - SDA10/USART1 - RI (io), 89 PX27/GPIO 78/EBI - ADDR[7]/SPI0 - MISO/SSC - TX_FRAME_SYNC (io), 90 PX26/GPIO 77/EBI - ADDR[8]/EIC - SCAN[7]/SSC - RX_FRAME_SYNC (io), 91 PX28/GPIO 79/EBI - ADDR[6]/SPI0 - MOSI/SSC - RX_CLOCK (io), 92 PX25/GPIO 76/EBI - ADDR[9]/EIC - SCAN[6]/SSC - RX_DATA (io), 93 PX32/GPIO 83/EBI - ADDR[2]/SPI0 - NPCS[2] (io), 94 PX29/GPIO 80/EBI - ADDR[5]/SPI0 - SPCK (io), 95 PX33/GPIO 84/EBI - ADDR[1]/SPI0 - NPCS[3] (io), 96 PX30/GPIO 81/EBI - ADDR[4]/SPI0 - NPCS[0] (io), 97 PX31/GPIO 82/EBI - ADDR[3]/SPI0 - NPCS[1] (io)
part E pins: 1 USB_VBUS (out), 3 USB_VBIAS, 5 DMHS (in), 6 DPHS (in), 8 DMFS (in), 9 DPFS (in), 104 TMS (in), 105 TDO (out), 106 RESET_N (in), 107 TCK (in), 108 TDI (in)
part F pins: 2 VDDIO (power), 4 GNDIO (power), 7 GNDIO (power), 10 VDDIO (power), 20 GNDIO (power), 21 VDDIO (power), 47 GNDIO (power), 48 VDDIO (power), 64 VDDIO (power), 65 GNDIO (power), 81 VDDIO (power), 82 GNDIO (power), 102 GNDIO (power), 103 VDDIO (power), 117 GNDANA (power), 118 VDDANA (power), 130 VDDIO (power), 131 GNDIO (power), 140 GNDCORE (power), 141 VDDCORE (power), 142 VDDIN (power), 143 VDDIN (power), 144 GNDPLL (power)

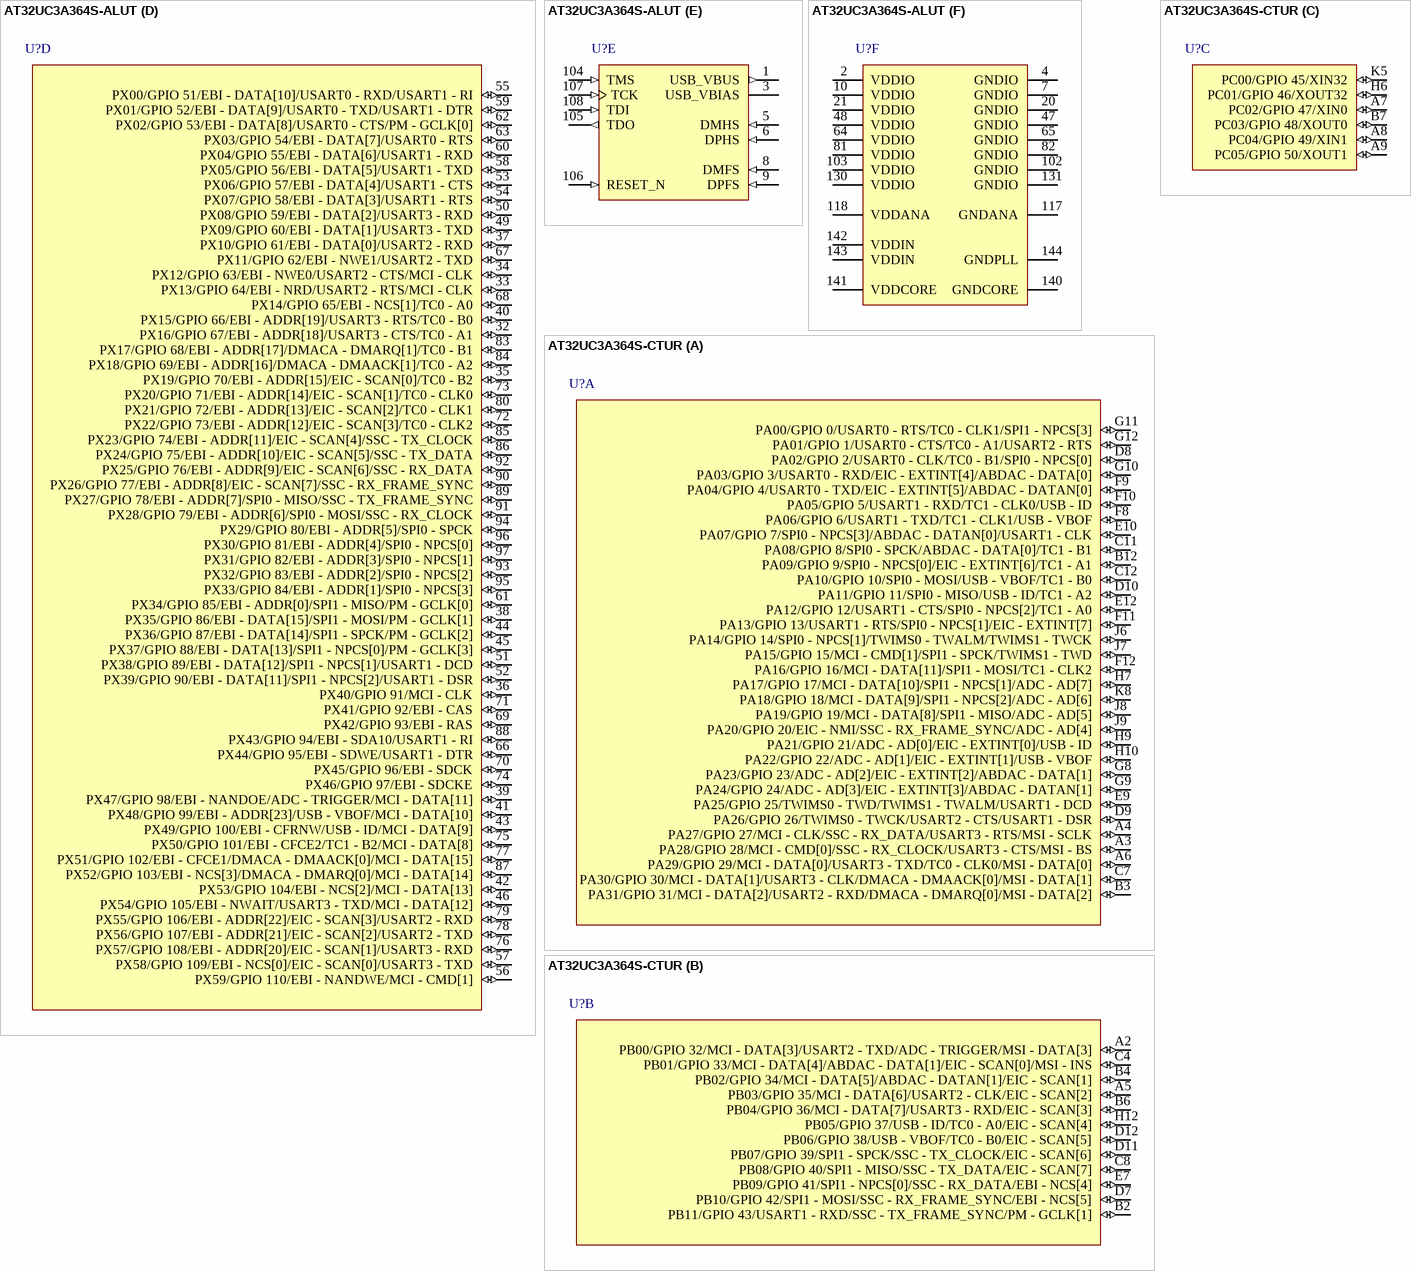
[diagram p14: symbols AT32UC3A364S-ALUT to AT32UC3A364S-CTUR]